# Altium integrated library Actel SmartFusion.IntLib: 80 symbols (part 6 of 14)
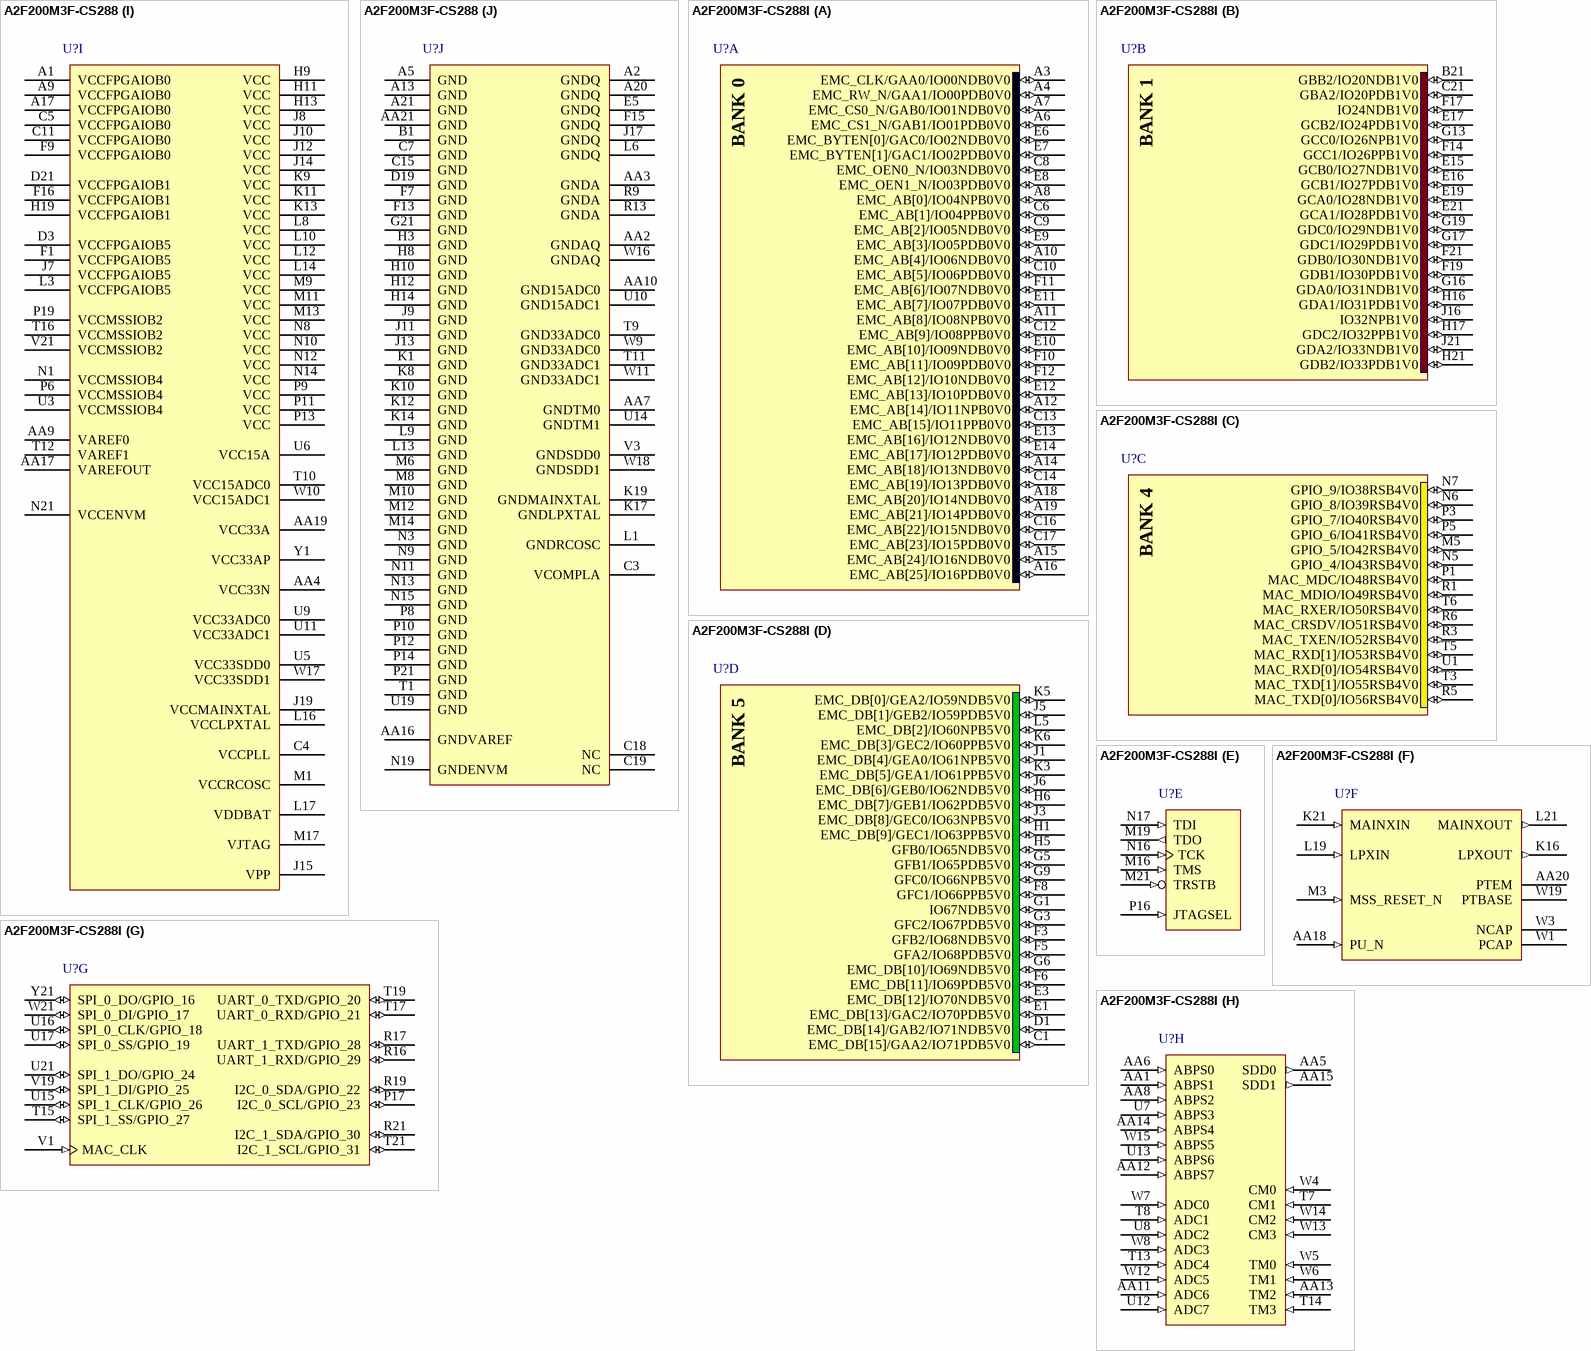
[diagram p90: symbols A2F200M3F-CS288 to A2F200M3F-CS288I]

## A2F200M3F-CS288
designator U?
SmartFusion Intellegent Mixed-Signal FPGA with ARM Cortex-M3, 200000 System Gates, 288-Pin CSP, Standard Speed Grade, Commercial Grade; DatasheetVersion: rev7, Aug-2011; PackageVersion: rev39, Aug-2010; PackageReference: CS288; PackageDescription: 288-Ball Chip Scale Ball Grid Array 0.5 mm Pitch (CS288); ComponentLink1Description: Manufacturer URL; ComponentLink1URL: http://www.actel.com/; ComponentLink2Description: SmartFusion Datasheet; ComponentLink2URL: http://www.actel.com/documents/SmartFusion_DS.pdf; ComponentLink3Description: Package Mechanical Drawings; ComponentLink3URL: http://www.actel.com/documents/PckgMechDrwngs.pdf; ComponentLink4Description: SmartFusion Documents; ComponentLink4URL: http://www.actel.com/products/smartfusion/docs.aspx
footprint CS288 (BGA, 288-Leads, Body 11x11mm, Pitch 0.5mm)
part A pins: A3 EMC_CLK/GAA0/IO00NDB0V0 (io), A4 EMC_RW_N/GAA1/IO00PDB0V0 (io), A6 EMC_CS1_N/GAB1/IO01PDB0V0 (io), A7 EMC_CS0_N/GAB0/IO01NDB0V0 (io), A8 EMC_AB[0]/IO04NPB0V0 (io), A10 EMC_AB[4]/IO06NDB0V0 (io), A11 EMC_AB[8]/IO08NPB0V0 (io), A12 EMC_AB[14]/IO11NPB0V0 (io), A14 EMC_AB[18]/IO13NDB0V0 (io), A15 EMC_AB[24]/IO16NDB0V0 (io), A16 EMC_AB[25]/IO16PDB0V0 (io), A18 EMC_AB[20]/IO14NDB0V0 (io), A19 EMC_AB[21]/IO14PDB0V0 (io), C6 EMC_AB[1]/IO04PPB0V0 (io), C8 EMC_OEN0_N/IO03NDB0V0 (io), C9 EMC_AB[2]/IO05NDB0V0 (io), C10 EMC_AB[5]/IO06PDB0V0 (io), C12 EMC_AB[9]/IO08PPB0V0 (io), C13 EMC_AB[15]/IO11PPB0V0 (io), C14 EMC_AB[19]/IO13PDB0V0 (io), C16 EMC_AB[22]/IO15NDB0V0 (io), C17 EMC_AB[23]/IO15PDB0V0 (io), E6 EMC_BYTEN[0]/GAC0/IO02NDB0V0 (io), E7 EMC_BYTEN[1]/GAC1/IO02PDB0V0 (io), E8 EMC_OEN1_N/IO03PDB0V0 (io), E9 EMC_AB[3]/IO05PDB0V0 (io), E10 EMC_AB[10]/IO09NDB0V0 (io), E11 EMC_AB[7]/IO07PDB0V0 (io), E12 EMC_AB[13]/IO10PDB0V0 (io), E13 EMC_AB[16]/IO12NDB0V0 (io), E14 EMC_AB[17]/IO12PDB0V0 (io), F10 EMC_AB[11]/IO09PDB0V0 (io), F11 EMC_AB[6]/IO07NDB0V0 (io), F12 EMC_AB[12]/IO10NDB0V0 (io)
part B pins: B21 GBB2/IO20NDB1V0 (io), C21 GBA2/IO20PDB1V0 (io), E15 GCB0/IO27NDB1V0 (io), E16 GCB1/IO27PDB1V0 (io), E17 GCB2/IO24PDB1V0 (io), E19 GCA0/IO28NDB1V0 (io), E21 GCA1/IO28PDB1V0 (io), F14 GCC1/IO26PPB1V0 (io), F17 IO24NDB1V0 (io), F19 GDB1/IO30PDB1V0 (io), F21 GDB0/IO30NDB1V0 (io), G13 GCC0/IO26NPB1V0 (io), G16 GDA0/IO31NDB1V0 (io), G17 GDC1/IO29PDB1V0 (io), G19 GDC0/IO29NDB1V0 (io), H16 GDA1/IO31PDB1V0 (io), H17 GDC2/IO32PPB1V0 (io), H21 GDB2/IO33PDB1V0 (io), J16 IO32NPB1V0 (io), J21 GDA2/IO33NDB1V0 (io)
part C pins: M5 GPIO_5/IO42RSB4V0 (io), N5 GPIO_4/IO43RSB4V0 (io), N6 GPIO_8/IO39RSB4V0 (io), N7 GPIO_9/IO38RSB4V0 (io), P1 MAC_MDC/IO48RSB4V0 (io), P3 GPIO_7/IO40RSB4V0 (io), P5 GPIO_6/IO41RSB4V0 (io), R1 MAC_MDIO/IO49RSB4V0 (io), R3 MAC_TXEN/IO52RSB4V0 (io), R5 MAC_TXD[0]/IO56RSB4V0 (io), R6 MAC_CRSDV/IO51RSB4V0 (io), T3 MAC_TXD[1]/IO55RSB4V0 (io), T5 MAC_RXD[1]/IO53RSB4V0 (io), T6 MAC_RXER/IO50RSB4V0 (io), U1 MAC_RXD[0]/IO54RSB4V0 (io)
part D pins: C1 EMC_DB[15]/GAA2/IO71PDB5V0 (io), D1 EMC_DB[14]/GAB2/IO71NDB5V0 (io), E1 EMC_DB[13]/GAC2/IO70PDB5V0 (io), E3 EMC_DB[12]/IO70NDB5V0 (io), F3 GFB2/IO68NDB5V0 (io), F5 GFA2/IO68PDB5V0 (io), F6 EMC_DB[11]/IO69PDB5V0 (io), F8 GFC1/IO66PPB5V0 (io), G1 IO67NDB5V0 (io), G3 GFC2/IO67PDB5V0 (io), G5 GFB1/IO65PDB5V0 (io), G6 EMC_DB[10]/IO69NDB5V0 (io), G9 GFC0/IO66NPB5V0 (io), H1 EMC_DB[9]/GEC1/IO63PPB5V0 (io), H5 GFB0/IO65NDB5V0 (io), H6 EMC_DB[7]/GEB1/IO62PDB5V0 (io), J1 EMC_DB[4]/GEA0/IO61NPB5V0 (io), J3 EMC_DB[8]/GEC0/IO63NPB5V0 (io), J5 EMC_DB[1]/GEB2/IO59PDB5V0 (io), J6 EMC_DB[6]/GEB0/IO62NDB5V0 (io), K3 EMC_DB[5]/GEA1/IO61PPB5V0 (io), K5 EMC_DB[0]/GEA2/IO59NDB5V0 (io), K6 EMC_DB[3]/GEC2/IO60PPB5V0 (io), L5 EMC_DB[2]/IO60NPB5V0 (io)
part E pins: M16 TMS (in), M19 TDO (out), M21 TRSTB (in), N16 TCK (in), N17 TDI (in), P16 JTAGSEL (in)
part F pins: AA18 PU_N (in), AA20 PTEM, K16 LPXOUT (out), K21 MAINXIN (in), L19 LPXIN (in), L21 MAINXOUT (out), M3 MSS_RESET_N (in), W1 PCAP, W3 NCAP, W19 PTBASE
part G pins: P17 I2C_0_SCL/GPIO_23 (io), R16 UART_1_RXD/GPIO_29 (io), R17 UART_1_TXD/GPIO_28 (io), R19 I2C_0_SDA/GPIO_22 (io), R21 I2C_1_SDA/GPIO_30 (io), T15 SPI_1_SS/GPIO_27 (io), T17 UART_0_RXD/GPIO_21 (io), T19 UART_0_TXD/GPIO_20 (io), T21 I2C_1_SCL/GPIO_31 (io), U15 SPI_1_CLK/GPIO_26 (io), U16 SPI_0_CLK/GPIO_18 (io), U17 SPI_0_SS/GPIO_19 (io), U21 SPI_1_DO/GPIO_24 (io), V1 MAC_CLK (in), V19 SPI_1_DI/GPIO_25 (io), W21 SPI_0_DI/GPIO_17 (io), Y21 SPI_0_DO/GPIO_16 (io)
part H pins: AA1 ABPS1 (in), AA5 SDD0 (out), AA6 ABPS0 (in), AA8 ABPS2 (in), AA11 ADC6 (in), AA12 ABPS7 (in), AA13 TM2 (in), AA14 ABPS4 (in), AA15 SDD1 (out), T7 CM1 (in), T8 ADC1 (in), T13 ADC4 (in), T14 TM3 (in), U7 ABPS3 (in), U8 ADC2 (in), U12 ADC7 (in), U13 ABPS6 (in), W4 CM0 (in), W5 TM0 (in), W6 TM1 (in), W7 ADC0 (in), W8 ADC3 (in), W12 ADC5 (in), W13 CM3 (in), W14 CM2 (in), W15 ABPS5 (in)
part I pins: A1 VCCFPGAIOB0 (power), A9 VCCFPGAIOB0 (power), A17 VCCFPGAIOB0 (power), AA4 VCC33N (power), AA9 VAREF0 (power), AA17 VAREFOUT (power), AA19 VCC33A (power), C4 VCCPLL (power), C5 VCCFPGAIOB0 (power), C11 VCCFPGAIOB0 (power), D3 VCCFPGAIOB5 (power), D21 VCCFPGAIOB1 (power), F1 VCCFPGAIOB5 (power), F9 VCCFPGAIOB0 (power), F16 VCCFPGAIOB1 (power), H9 VCC (power), H11 VCC (power), H13 VCC (power), H19 VCCFPGAIOB1 (power), J7 VCCFPGAIOB5 (power), J8 VCC (power), J10 VCC (power), J12 VCC (power), J14 VCC (power), J15 VPP (power), J19 VCCMAINXTAL (power), K9 VCC (power), K11 VCC (power), K13 VCC (power), L3 VCCFPGAIOB5 (power), L8 VCC (power), L10 VCC (power), L12 VCC (power), L14 VCC (power), L16 VCCLPXTAL (power), L17 VDDBAT (power), M1 VCCRCOSC (power), M9 VCC (power), M11 VCC (power), M13 VCC (power), M17 VJTAG (power), N1 VCCMSSIOB4 (power), N8 VCC (power), N10 VCC (power), N12 VCC (power), N14 VCC (power), N21 VCCENVM (power), P6 VCCMSSIOB4 (power), P9 VCC (power), P11 VCC (power), P13 VCC (power), P19 VCCMSSIOB2 (power), T10 VCC15ADC0 (power), T12 VAREF1 (power), T16 VCCMSSIOB2 (power), U3 VCCMSSIOB4 (power), U5 VCC33SDD0 (power), U6 VCC15A (power), U9 VCC33ADC0 (power), U11 VCC33ADC1 (power), V21 VCCMSSIOB2 (power), W10 VCC15ADC1 (power), W17 VCC33SDD1 (power), Y1 VCC33AP (power)
part J pins: A2 GNDQ (power), A5 GND (power), A13 GND (power), A20 GNDQ (power), A21 GND (power), AA2 GNDAQ (power), AA3 GNDA (power), AA7 GNDTM0 (power), AA10 GND15ADC0 (power), AA16 GNDVAREF (power), AA21 GND (power), B1 GND (power), C3 VCOMPLA (power), C7 GND (power), C15 GND (power), C18 NC, C19 NC, D19 GND (power), E5 GNDQ (power), F7 GND (power), F13 GND (power), F15 GNDQ (power), G21 GND (power), H3 GND (power), H8 GND (power), H10 GND (power), H12 GND (power), H14 GND (power), J9 GND (power), J11 GND (power), J13 GND (power), J17 GNDQ (power), K1 GND (power), K8 GND (power), K10 GND (power), K12 GND (power), K14 GND (power), K17 GNDLPXTAL (power), K19 GNDMAINXTAL (power), L1 GNDRCOSC (power), L6 GNDQ (power), L9 GND (power), L13 GND (power), M6 GND (power), M8 GND (power), M10 GND (power), M12 GND (power), M14 GND (power), N3 GND (power), N9 GND (power), N11 GND (power), N13 GND (power), N15 GND (power), N19 GNDENVM (power), P8 GND (power), P10 GND (power), P12 GND (power), P14 GND (power), P21 GND (power), R9 GNDA (power), R13 GNDA (power), T1 GND (power), T9 GND33ADC0 (power), T11 GND33ADC1 (power), U10 GND15ADC1 (power), U14 GNDTM1 (power), U19 GND (power), V3 GNDSDD0 (power), W9 GND33ADC0 (power), W11 GND33ADC1 (power), W16 GNDAQ (power), W18 GNDSDD1 (power)
part A text: BANK 0
part B text: BANK 1
part C text: BANK 4
part D text: BANK 5

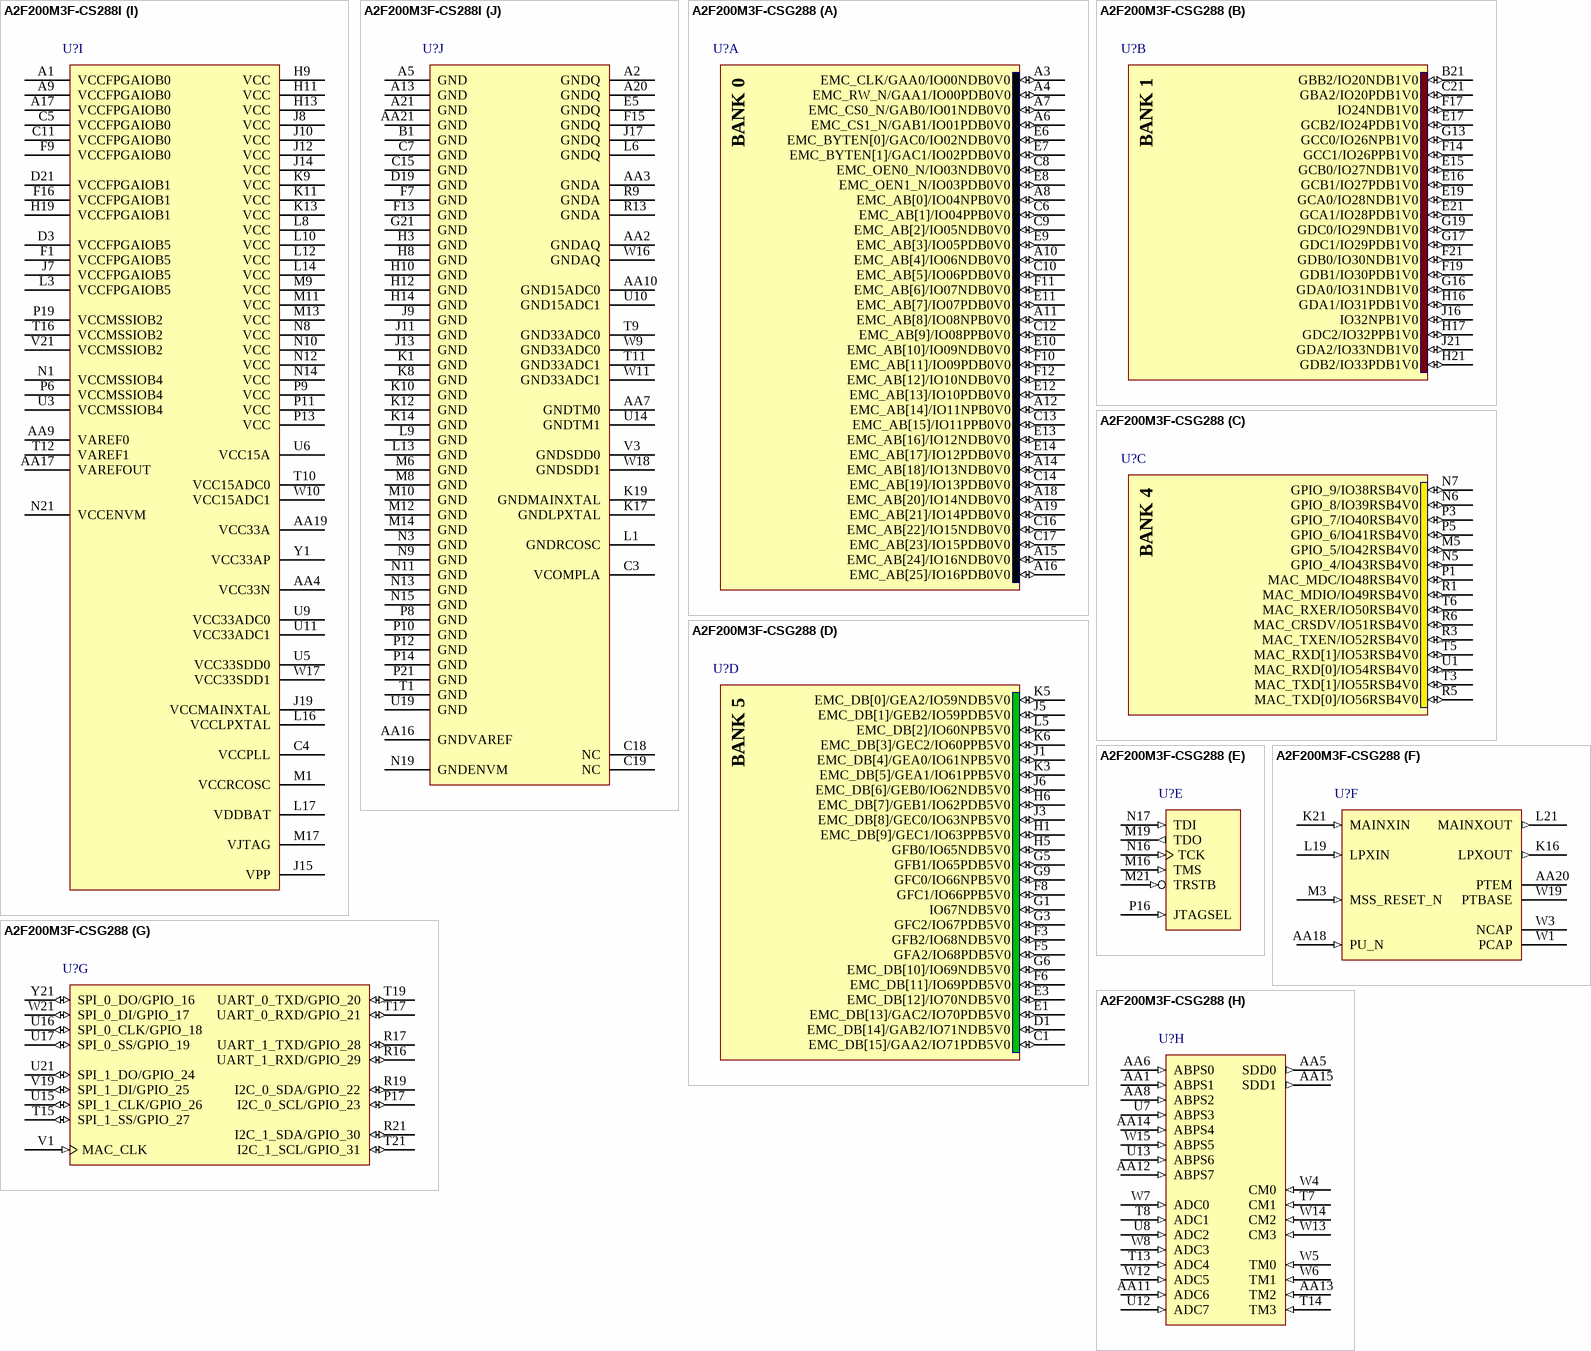
[diagram p35: symbols A2F200M3F-CS288I to A2F200M3F-CSG288]

## A2F200M3F-CS288I
designator U?
SmartFusion Intellegent Mixed-Signal FPGA with ARM Cortex-M3, 200000 System Gates, 288-Pin CSP, Standard Speed Grade, Industrial Grade; DatasheetVersion: rev7, Aug-2011; PackageVersion: rev39, Aug-2010; PackageReference: CS288; PackageDescription: 288-Ball Chip Scale Ball Grid Array 0.5 mm Pitch (CS288); ComponentLink1Description: Manufacturer URL; ComponentLink1URL: http://www.actel.com/; ComponentLink2Description: SmartFusion Datasheet; ComponentLink2URL: http://www.actel.com/documents/SmartFusion_DS.pdf; ComponentLink3Description: Package Mechanical Drawings; ComponentLink3URL: http://www.actel.com/documents/PckgMechDrwngs.pdf; ComponentLink4Description: SmartFusion Documents; ComponentLink4URL: http://www.actel.com/products/smartfusion/docs.aspx
footprint CS288 (BGA, 288-Leads, Body 11x11mm, Pitch 0.5mm)
part A pins: A3 EMC_CLK/GAA0/IO00NDB0V0 (io), A4 EMC_RW_N/GAA1/IO00PDB0V0 (io), A6 EMC_CS1_N/GAB1/IO01PDB0V0 (io), A7 EMC_CS0_N/GAB0/IO01NDB0V0 (io), A8 EMC_AB[0]/IO04NPB0V0 (io), A10 EMC_AB[4]/IO06NDB0V0 (io), A11 EMC_AB[8]/IO08NPB0V0 (io), A12 EMC_AB[14]/IO11NPB0V0 (io), A14 EMC_AB[18]/IO13NDB0V0 (io), A15 EMC_AB[24]/IO16NDB0V0 (io), A16 EMC_AB[25]/IO16PDB0V0 (io), A18 EMC_AB[20]/IO14NDB0V0 (io), A19 EMC_AB[21]/IO14PDB0V0 (io), C6 EMC_AB[1]/IO04PPB0V0 (io), C8 EMC_OEN0_N/IO03NDB0V0 (io), C9 EMC_AB[2]/IO05NDB0V0 (io), C10 EMC_AB[5]/IO06PDB0V0 (io), C12 EMC_AB[9]/IO08PPB0V0 (io), C13 EMC_AB[15]/IO11PPB0V0 (io), C14 EMC_AB[19]/IO13PDB0V0 (io), C16 EMC_AB[22]/IO15NDB0V0 (io), C17 EMC_AB[23]/IO15PDB0V0 (io), E6 EMC_BYTEN[0]/GAC0/IO02NDB0V0 (io), E7 EMC_BYTEN[1]/GAC1/IO02PDB0V0 (io), E8 EMC_OEN1_N/IO03PDB0V0 (io), E9 EMC_AB[3]/IO05PDB0V0 (io), E10 EMC_AB[10]/IO09NDB0V0 (io), E11 EMC_AB[7]/IO07PDB0V0 (io), E12 EMC_AB[13]/IO10PDB0V0 (io), E13 EMC_AB[16]/IO12NDB0V0 (io), E14 EMC_AB[17]/IO12PDB0V0 (io), F10 EMC_AB[11]/IO09PDB0V0 (io), F11 EMC_AB[6]/IO07NDB0V0 (io), F12 EMC_AB[12]/IO10NDB0V0 (io)
part B pins: B21 GBB2/IO20NDB1V0 (io), C21 GBA2/IO20PDB1V0 (io), E15 GCB0/IO27NDB1V0 (io), E16 GCB1/IO27PDB1V0 (io), E17 GCB2/IO24PDB1V0 (io), E19 GCA0/IO28NDB1V0 (io), E21 GCA1/IO28PDB1V0 (io), F14 GCC1/IO26PPB1V0 (io), F17 IO24NDB1V0 (io), F19 GDB1/IO30PDB1V0 (io), F21 GDB0/IO30NDB1V0 (io), G13 GCC0/IO26NPB1V0 (io), G16 GDA0/IO31NDB1V0 (io), G17 GDC1/IO29PDB1V0 (io), G19 GDC0/IO29NDB1V0 (io), H16 GDA1/IO31PDB1V0 (io), H17 GDC2/IO32PPB1V0 (io), H21 GDB2/IO33PDB1V0 (io), J16 IO32NPB1V0 (io), J21 GDA2/IO33NDB1V0 (io)
part C pins: M5 GPIO_5/IO42RSB4V0 (io), N5 GPIO_4/IO43RSB4V0 (io), N6 GPIO_8/IO39RSB4V0 (io), N7 GPIO_9/IO38RSB4V0 (io), P1 MAC_MDC/IO48RSB4V0 (io), P3 GPIO_7/IO40RSB4V0 (io), P5 GPIO_6/IO41RSB4V0 (io), R1 MAC_MDIO/IO49RSB4V0 (io), R3 MAC_TXEN/IO52RSB4V0 (io), R5 MAC_TXD[0]/IO56RSB4V0 (io), R6 MAC_CRSDV/IO51RSB4V0 (io), T3 MAC_TXD[1]/IO55RSB4V0 (io), T5 MAC_RXD[1]/IO53RSB4V0 (io), T6 MAC_RXER/IO50RSB4V0 (io), U1 MAC_RXD[0]/IO54RSB4V0 (io)
part D pins: C1 EMC_DB[15]/GAA2/IO71PDB5V0 (io), D1 EMC_DB[14]/GAB2/IO71NDB5V0 (io), E1 EMC_DB[13]/GAC2/IO70PDB5V0 (io), E3 EMC_DB[12]/IO70NDB5V0 (io), F3 GFB2/IO68NDB5V0 (io), F5 GFA2/IO68PDB5V0 (io), F6 EMC_DB[11]/IO69PDB5V0 (io), F8 GFC1/IO66PPB5V0 (io), G1 IO67NDB5V0 (io), G3 GFC2/IO67PDB5V0 (io), G5 GFB1/IO65PDB5V0 (io), G6 EMC_DB[10]/IO69NDB5V0 (io), G9 GFC0/IO66NPB5V0 (io), H1 EMC_DB[9]/GEC1/IO63PPB5V0 (io), H5 GFB0/IO65NDB5V0 (io), H6 EMC_DB[7]/GEB1/IO62PDB5V0 (io), J1 EMC_DB[4]/GEA0/IO61NPB5V0 (io), J3 EMC_DB[8]/GEC0/IO63NPB5V0 (io), J5 EMC_DB[1]/GEB2/IO59PDB5V0 (io), J6 EMC_DB[6]/GEB0/IO62NDB5V0 (io), K3 EMC_DB[5]/GEA1/IO61PPB5V0 (io), K5 EMC_DB[0]/GEA2/IO59NDB5V0 (io), K6 EMC_DB[3]/GEC2/IO60PPB5V0 (io), L5 EMC_DB[2]/IO60NPB5V0 (io)
part E pins: M16 TMS (in), M19 TDO (out), M21 TRSTB (in), N16 TCK (in), N17 TDI (in), P16 JTAGSEL (in)
part F pins: AA18 PU_N (in), AA20 PTEM, K16 LPXOUT (out), K21 MAINXIN (in), L19 LPXIN (in), L21 MAINXOUT (out), M3 MSS_RESET_N (in), W1 PCAP, W3 NCAP, W19 PTBASE
part G pins: P17 I2C_0_SCL/GPIO_23 (io), R16 UART_1_RXD/GPIO_29 (io), R17 UART_1_TXD/GPIO_28 (io), R19 I2C_0_SDA/GPIO_22 (io), R21 I2C_1_SDA/GPIO_30 (io), T15 SPI_1_SS/GPIO_27 (io), T17 UART_0_RXD/GPIO_21 (io), T19 UART_0_TXD/GPIO_20 (io), T21 I2C_1_SCL/GPIO_31 (io), U15 SPI_1_CLK/GPIO_26 (io), U16 SPI_0_CLK/GPIO_18 (io), U17 SPI_0_SS/GPIO_19 (io), U21 SPI_1_DO/GPIO_24 (io), V1 MAC_CLK (in), V19 SPI_1_DI/GPIO_25 (io), W21 SPI_0_DI/GPIO_17 (io), Y21 SPI_0_DO/GPIO_16 (io)
part H pins: AA1 ABPS1 (in), AA5 SDD0 (out), AA6 ABPS0 (in), AA8 ABPS2 (in), AA11 ADC6 (in), AA12 ABPS7 (in), AA13 TM2 (in), AA14 ABPS4 (in), AA15 SDD1 (out), T7 CM1 (in), T8 ADC1 (in), T13 ADC4 (in), T14 TM3 (in), U7 ABPS3 (in), U8 ADC2 (in), U12 ADC7 (in), U13 ABPS6 (in), W4 CM0 (in), W5 TM0 (in), W6 TM1 (in), W7 ADC0 (in), W8 ADC3 (in), W12 ADC5 (in), W13 CM3 (in), W14 CM2 (in), W15 ABPS5 (in)
part I pins: A1 VCCFPGAIOB0 (power), A9 VCCFPGAIOB0 (power), A17 VCCFPGAIOB0 (power), AA4 VCC33N (power), AA9 VAREF0 (power), AA17 VAREFOUT (power), AA19 VCC33A (power), C4 VCCPLL (power), C5 VCCFPGAIOB0 (power), C11 VCCFPGAIOB0 (power), D3 VCCFPGAIOB5 (power), D21 VCCFPGAIOB1 (power), F1 VCCFPGAIOB5 (power), F9 VCCFPGAIOB0 (power), F16 VCCFPGAIOB1 (power), H9 VCC (power), H11 VCC (power), H13 VCC (power), H19 VCCFPGAIOB1 (power), J7 VCCFPGAIOB5 (power), J8 VCC (power), J10 VCC (power), J12 VCC (power), J14 VCC (power), J15 VPP (power), J19 VCCMAINXTAL (power), K9 VCC (power), K11 VCC (power), K13 VCC (power), L3 VCCFPGAIOB5 (power), L8 VCC (power), L10 VCC (power), L12 VCC (power), L14 VCC (power), L16 VCCLPXTAL (power), L17 VDDBAT (power), M1 VCCRCOSC (power), M9 VCC (power), M11 VCC (power), M13 VCC (power), M17 VJTAG (power), N1 VCCMSSIOB4 (power), N8 VCC (power), N10 VCC (power), N12 VCC (power), N14 VCC (power), N21 VCCENVM (power), P6 VCCMSSIOB4 (power), P9 VCC (power), P11 VCC (power), P13 VCC (power), P19 VCCMSSIOB2 (power), T10 VCC15ADC0 (power), T12 VAREF1 (power), T16 VCCMSSIOB2 (power), U3 VCCMSSIOB4 (power), U5 VCC33SDD0 (power), U6 VCC15A (power), U9 VCC33ADC0 (power), U11 VCC33ADC1 (power), V21 VCCMSSIOB2 (power), W10 VCC15ADC1 (power), W17 VCC33SDD1 (power), Y1 VCC33AP (power)
part J pins: A2 GNDQ (power), A5 GND (power), A13 GND (power), A20 GNDQ (power), A21 GND (power), AA2 GNDAQ (power), AA3 GNDA (power), AA7 GNDTM0 (power), AA10 GND15ADC0 (power), AA16 GNDVAREF (power), AA21 GND (power), B1 GND (power), C3 VCOMPLA (power), C7 GND (power), C15 GND (power), C18 NC, C19 NC, D19 GND (power), E5 GNDQ (power), F7 GND (power), F13 GND (power), F15 GNDQ (power), G21 GND (power), H3 GND (power), H8 GND (power), H10 GND (power), H12 GND (power), H14 GND (power), J9 GND (power), J11 GND (power), J13 GND (power), J17 GNDQ (power), K1 GND (power), K8 GND (power), K10 GND (power), K12 GND (power), K14 GND (power), K17 GNDLPXTAL (power), K19 GNDMAINXTAL (power), L1 GNDRCOSC (power), L6 GNDQ (power), L9 GND (power), L13 GND (power), M6 GND (power), M8 GND (power), M10 GND (power), M12 GND (power), M14 GND (power), N3 GND (power), N9 GND (power), N11 GND (power), N13 GND (power), N15 GND (power), N19 GNDENVM (power), P8 GND (power), P10 GND (power), P12 GND (power), P14 GND (power), P21 GND (power), R9 GNDA (power), R13 GNDA (power), T1 GND (power), T9 GND33ADC0 (power), T11 GND33ADC1 (power), U10 GND15ADC1 (power), U14 GNDTM1 (power), U19 GND (power), V3 GNDSDD0 (power), W9 GND33ADC0 (power), W11 GND33ADC1 (power), W16 GNDAQ (power), W18 GNDSDD1 (power)
part A text: BANK 0
part B text: BANK 1
part C text: BANK 4
part D text: BANK 5

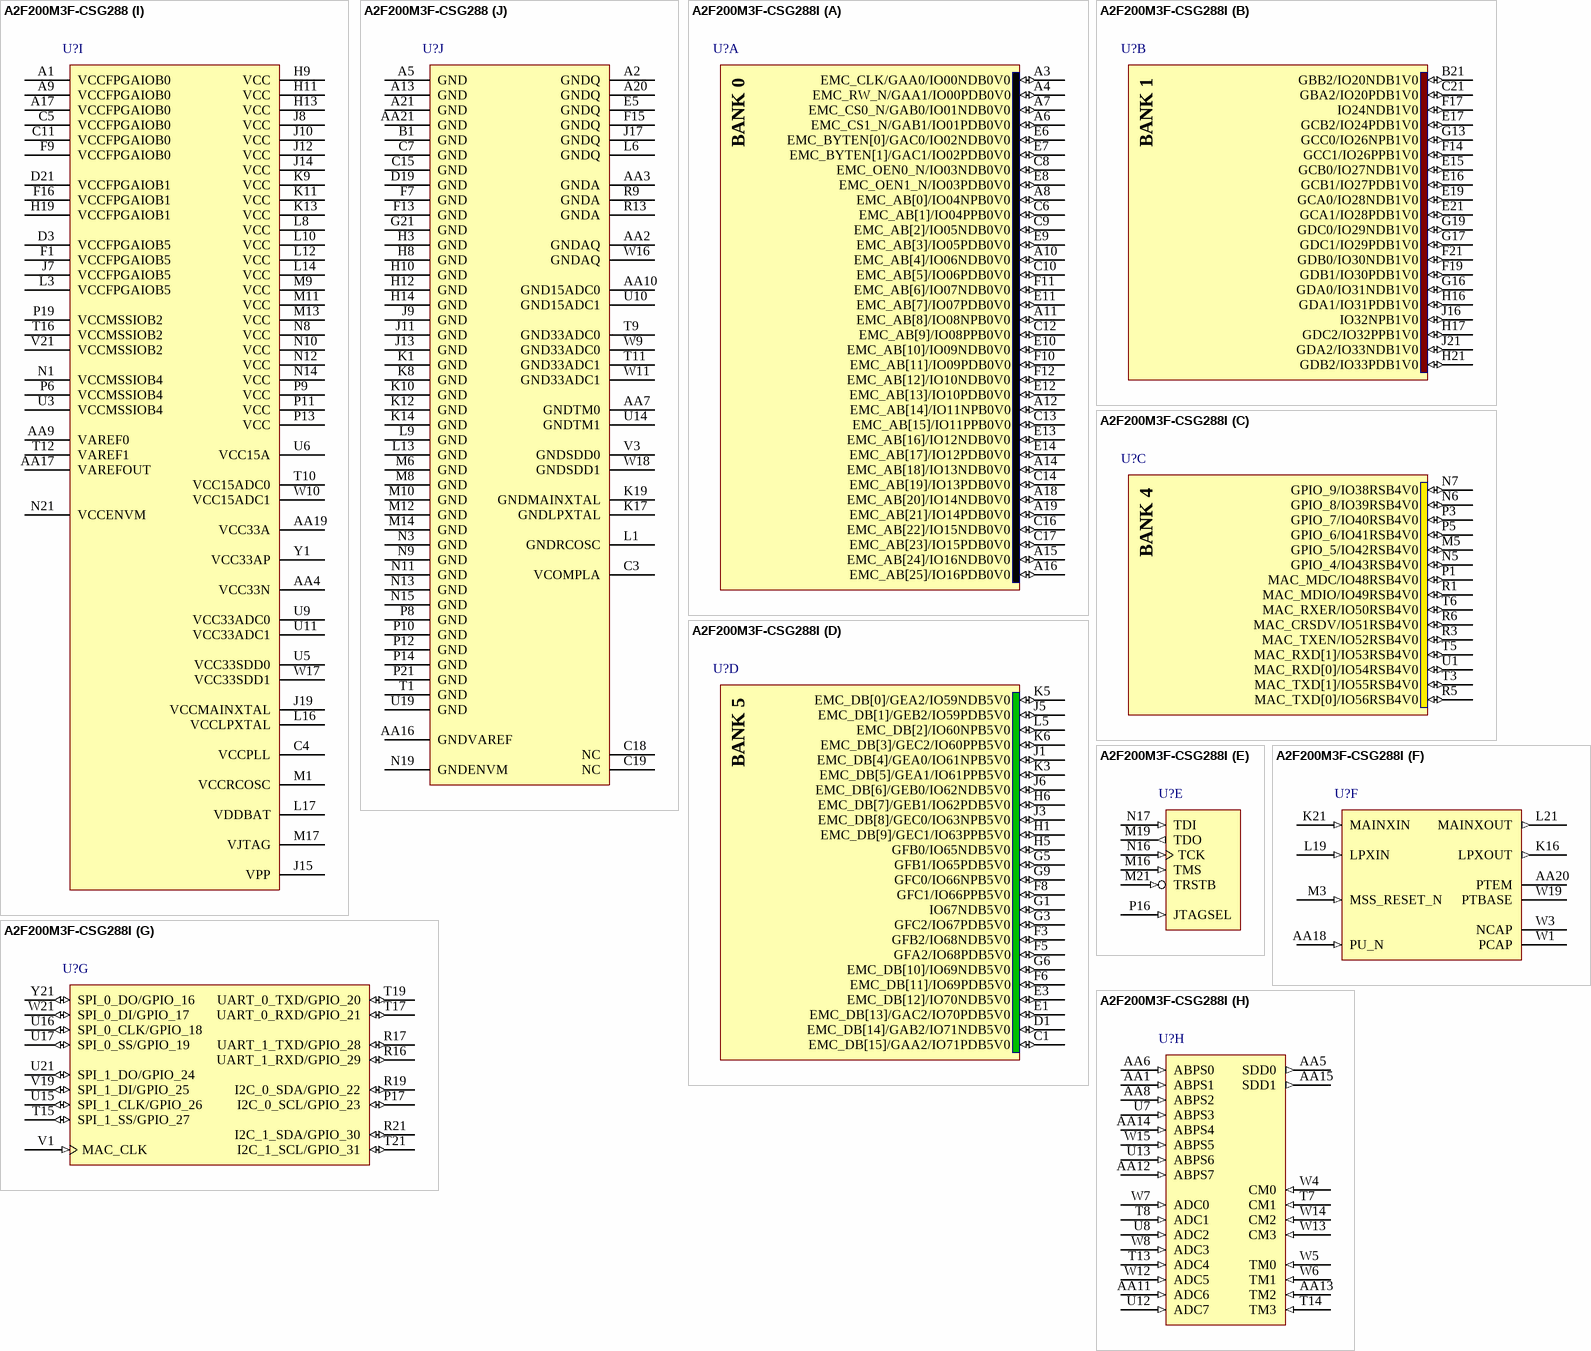
[diagram p36: symbols A2F200M3F-CSG288 to A2F200M3F-CSG288I]

## A2F200M3F-CSG288
designator U?
SmartFusion Intellegent Mixed-Signal FPGA with ARM Cortex-M3, 200000 System Gates, 288-Pin CSP, Standard Speed Grade, Commercial Grade, Pb-Free; DatasheetVersion: rev7, Aug-2011; PackageVersion: rev39, Aug-2010; PackageReference: CS288; PackageDescription: 288-Ball Chip Scale Ball Grid Array 0.5 mm Pitch (CS288); ComponentLink1Description: Manufacturer URL; ComponentLink1URL: http://www.actel.com/; ComponentLink2Description: SmartFusion Datasheet; ComponentLink2URL: http://www.actel.com/documents/SmartFusion_DS.pdf; ComponentLink3Description: Package Mechanical Drawings; ComponentLink3URL: http://www.actel.com/documents/PckgMechDrwngs.pdf; ComponentLink4Description: SmartFusion Documents; ComponentLink4URL: http://www.actel.com/products/smartfusion/docs.aspx
footprint CS288 (BGA, 288-Leads, Body 11x11mm, Pitch 0.5mm)
part A pins: A3 EMC_CLK/GAA0/IO00NDB0V0 (io), A4 EMC_RW_N/GAA1/IO00PDB0V0 (io), A6 EMC_CS1_N/GAB1/IO01PDB0V0 (io), A7 EMC_CS0_N/GAB0/IO01NDB0V0 (io), A8 EMC_AB[0]/IO04NPB0V0 (io), A10 EMC_AB[4]/IO06NDB0V0 (io), A11 EMC_AB[8]/IO08NPB0V0 (io), A12 EMC_AB[14]/IO11NPB0V0 (io), A14 EMC_AB[18]/IO13NDB0V0 (io), A15 EMC_AB[24]/IO16NDB0V0 (io), A16 EMC_AB[25]/IO16PDB0V0 (io), A18 EMC_AB[20]/IO14NDB0V0 (io), A19 EMC_AB[21]/IO14PDB0V0 (io), C6 EMC_AB[1]/IO04PPB0V0 (io), C8 EMC_OEN0_N/IO03NDB0V0 (io), C9 EMC_AB[2]/IO05NDB0V0 (io), C10 EMC_AB[5]/IO06PDB0V0 (io), C12 EMC_AB[9]/IO08PPB0V0 (io), C13 EMC_AB[15]/IO11PPB0V0 (io), C14 EMC_AB[19]/IO13PDB0V0 (io), C16 EMC_AB[22]/IO15NDB0V0 (io), C17 EMC_AB[23]/IO15PDB0V0 (io), E6 EMC_BYTEN[0]/GAC0/IO02NDB0V0 (io), E7 EMC_BYTEN[1]/GAC1/IO02PDB0V0 (io), E8 EMC_OEN1_N/IO03PDB0V0 (io), E9 EMC_AB[3]/IO05PDB0V0 (io), E10 EMC_AB[10]/IO09NDB0V0 (io), E11 EMC_AB[7]/IO07PDB0V0 (io), E12 EMC_AB[13]/IO10PDB0V0 (io), E13 EMC_AB[16]/IO12NDB0V0 (io), E14 EMC_AB[17]/IO12PDB0V0 (io), F10 EMC_AB[11]/IO09PDB0V0 (io), F11 EMC_AB[6]/IO07NDB0V0 (io), F12 EMC_AB[12]/IO10NDB0V0 (io)
part B pins: B21 GBB2/IO20NDB1V0 (io), C21 GBA2/IO20PDB1V0 (io), E15 GCB0/IO27NDB1V0 (io), E16 GCB1/IO27PDB1V0 (io), E17 GCB2/IO24PDB1V0 (io), E19 GCA0/IO28NDB1V0 (io), E21 GCA1/IO28PDB1V0 (io), F14 GCC1/IO26PPB1V0 (io), F17 IO24NDB1V0 (io), F19 GDB1/IO30PDB1V0 (io), F21 GDB0/IO30NDB1V0 (io), G13 GCC0/IO26NPB1V0 (io), G16 GDA0/IO31NDB1V0 (io), G17 GDC1/IO29PDB1V0 (io), G19 GDC0/IO29NDB1V0 (io), H16 GDA1/IO31PDB1V0 (io), H17 GDC2/IO32PPB1V0 (io), H21 GDB2/IO33PDB1V0 (io), J16 IO32NPB1V0 (io), J21 GDA2/IO33NDB1V0 (io)
part C pins: M5 GPIO_5/IO42RSB4V0 (io), N5 GPIO_4/IO43RSB4V0 (io), N6 GPIO_8/IO39RSB4V0 (io), N7 GPIO_9/IO38RSB4V0 (io), P1 MAC_MDC/IO48RSB4V0 (io), P3 GPIO_7/IO40RSB4V0 (io), P5 GPIO_6/IO41RSB4V0 (io), R1 MAC_MDIO/IO49RSB4V0 (io), R3 MAC_TXEN/IO52RSB4V0 (io), R5 MAC_TXD[0]/IO56RSB4V0 (io), R6 MAC_CRSDV/IO51RSB4V0 (io), T3 MAC_TXD[1]/IO55RSB4V0 (io), T5 MAC_RXD[1]/IO53RSB4V0 (io), T6 MAC_RXER/IO50RSB4V0 (io), U1 MAC_RXD[0]/IO54RSB4V0 (io)
part D pins: C1 EMC_DB[15]/GAA2/IO71PDB5V0 (io), D1 EMC_DB[14]/GAB2/IO71NDB5V0 (io), E1 EMC_DB[13]/GAC2/IO70PDB5V0 (io), E3 EMC_DB[12]/IO70NDB5V0 (io), F3 GFB2/IO68NDB5V0 (io), F5 GFA2/IO68PDB5V0 (io), F6 EMC_DB[11]/IO69PDB5V0 (io), F8 GFC1/IO66PPB5V0 (io), G1 IO67NDB5V0 (io), G3 GFC2/IO67PDB5V0 (io), G5 GFB1/IO65PDB5V0 (io), G6 EMC_DB[10]/IO69NDB5V0 (io), G9 GFC0/IO66NPB5V0 (io), H1 EMC_DB[9]/GEC1/IO63PPB5V0 (io), H5 GFB0/IO65NDB5V0 (io), H6 EMC_DB[7]/GEB1/IO62PDB5V0 (io), J1 EMC_DB[4]/GEA0/IO61NPB5V0 (io), J3 EMC_DB[8]/GEC0/IO63NPB5V0 (io), J5 EMC_DB[1]/GEB2/IO59PDB5V0 (io), J6 EMC_DB[6]/GEB0/IO62NDB5V0 (io), K3 EMC_DB[5]/GEA1/IO61PPB5V0 (io), K5 EMC_DB[0]/GEA2/IO59NDB5V0 (io), K6 EMC_DB[3]/GEC2/IO60PPB5V0 (io), L5 EMC_DB[2]/IO60NPB5V0 (io)
part E pins: M16 TMS (in), M19 TDO (out), M21 TRSTB (in), N16 TCK (in), N17 TDI (in), P16 JTAGSEL (in)
part F pins: AA18 PU_N (in), AA20 PTEM, K16 LPXOUT (out), K21 MAINXIN (in), L19 LPXIN (in), L21 MAINXOUT (out), M3 MSS_RESET_N (in), W1 PCAP, W3 NCAP, W19 PTBASE
part G pins: P17 I2C_0_SCL/GPIO_23 (io), R16 UART_1_RXD/GPIO_29 (io), R17 UART_1_TXD/GPIO_28 (io), R19 I2C_0_SDA/GPIO_22 (io), R21 I2C_1_SDA/GPIO_30 (io), T15 SPI_1_SS/GPIO_27 (io), T17 UART_0_RXD/GPIO_21 (io), T19 UART_0_TXD/GPIO_20 (io), T21 I2C_1_SCL/GPIO_31 (io), U15 SPI_1_CLK/GPIO_26 (io), U16 SPI_0_CLK/GPIO_18 (io), U17 SPI_0_SS/GPIO_19 (io), U21 SPI_1_DO/GPIO_24 (io), V1 MAC_CLK (in), V19 SPI_1_DI/GPIO_25 (io), W21 SPI_0_DI/GPIO_17 (io), Y21 SPI_0_DO/GPIO_16 (io)
part H pins: AA1 ABPS1 (in), AA5 SDD0 (out), AA6 ABPS0 (in), AA8 ABPS2 (in), AA11 ADC6 (in), AA12 ABPS7 (in), AA13 TM2 (in), AA14 ABPS4 (in), AA15 SDD1 (out), T7 CM1 (in), T8 ADC1 (in), T13 ADC4 (in), T14 TM3 (in), U7 ABPS3 (in), U8 ADC2 (in), U12 ADC7 (in), U13 ABPS6 (in), W4 CM0 (in), W5 TM0 (in), W6 TM1 (in), W7 ADC0 (in), W8 ADC3 (in), W12 ADC5 (in), W13 CM3 (in), W14 CM2 (in), W15 ABPS5 (in)
part I pins: A1 VCCFPGAIOB0 (power), A9 VCCFPGAIOB0 (power), A17 VCCFPGAIOB0 (power), AA4 VCC33N (power), AA9 VAREF0 (power), AA17 VAREFOUT (power), AA19 VCC33A (power), C4 VCCPLL (power), C5 VCCFPGAIOB0 (power), C11 VCCFPGAIOB0 (power), D3 VCCFPGAIOB5 (power), D21 VCCFPGAIOB1 (power), F1 VCCFPGAIOB5 (power), F9 VCCFPGAIOB0 (power), F16 VCCFPGAIOB1 (power), H9 VCC (power), H11 VCC (power), H13 VCC (power), H19 VCCFPGAIOB1 (power), J7 VCCFPGAIOB5 (power), J8 VCC (power), J10 VCC (power), J12 VCC (power), J14 VCC (power), J15 VPP (power), J19 VCCMAINXTAL (power), K9 VCC (power), K11 VCC (power), K13 VCC (power), L3 VCCFPGAIOB5 (power), L8 VCC (power), L10 VCC (power), L12 VCC (power), L14 VCC (power), L16 VCCLPXTAL (power), L17 VDDBAT (power), M1 VCCRCOSC (power), M9 VCC (power), M11 VCC (power), M13 VCC (power), M17 VJTAG (power), N1 VCCMSSIOB4 (power), N8 VCC (power), N10 VCC (power), N12 VCC (power), N14 VCC (power), N21 VCCENVM (power), P6 VCCMSSIOB4 (power), P9 VCC (power), P11 VCC (power), P13 VCC (power), P19 VCCMSSIOB2 (power), T10 VCC15ADC0 (power), T12 VAREF1 (power), T16 VCCMSSIOB2 (power), U3 VCCMSSIOB4 (power), U5 VCC33SDD0 (power), U6 VCC15A (power), U9 VCC33ADC0 (power), U11 VCC33ADC1 (power), V21 VCCMSSIOB2 (power), W10 VCC15ADC1 (power), W17 VCC33SDD1 (power), Y1 VCC33AP (power)
part J pins: A2 GNDQ (power), A5 GND (power), A13 GND (power), A20 GNDQ (power), A21 GND (power), AA2 GNDAQ (power), AA3 GNDA (power), AA7 GNDTM0 (power), AA10 GND15ADC0 (power), AA16 GNDVAREF (power), AA21 GND (power), B1 GND (power), C3 VCOMPLA (power), C7 GND (power), C15 GND (power), C18 NC, C19 NC, D19 GND (power), E5 GNDQ (power), F7 GND (power), F13 GND (power), F15 GNDQ (power), G21 GND (power), H3 GND (power), H8 GND (power), H10 GND (power), H12 GND (power), H14 GND (power), J9 GND (power), J11 GND (power), J13 GND (power), J17 GNDQ (power), K1 GND (power), K8 GND (power), K10 GND (power), K12 GND (power), K14 GND (power), K17 GNDLPXTAL (power), K19 GNDMAINXTAL (power), L1 GNDRCOSC (power), L6 GNDQ (power), L9 GND (power), L13 GND (power), M6 GND (power), M8 GND (power), M10 GND (power), M12 GND (power), M14 GND (power), N3 GND (power), N9 GND (power), N11 GND (power), N13 GND (power), N15 GND (power), N19 GNDENVM (power), P8 GND (power), P10 GND (power), P12 GND (power), P14 GND (power), P21 GND (power), R9 GNDA (power), R13 GNDA (power), T1 GND (power), T9 GND33ADC0 (power), T11 GND33ADC1 (power), U10 GND15ADC1 (power), U14 GNDTM1 (power), U19 GND (power), V3 GNDSDD0 (power), W9 GND33ADC0 (power), W11 GND33ADC1 (power), W16 GNDAQ (power), W18 GNDSDD1 (power)
part A text: BANK 0
part B text: BANK 1
part C text: BANK 4
part D text: BANK 5

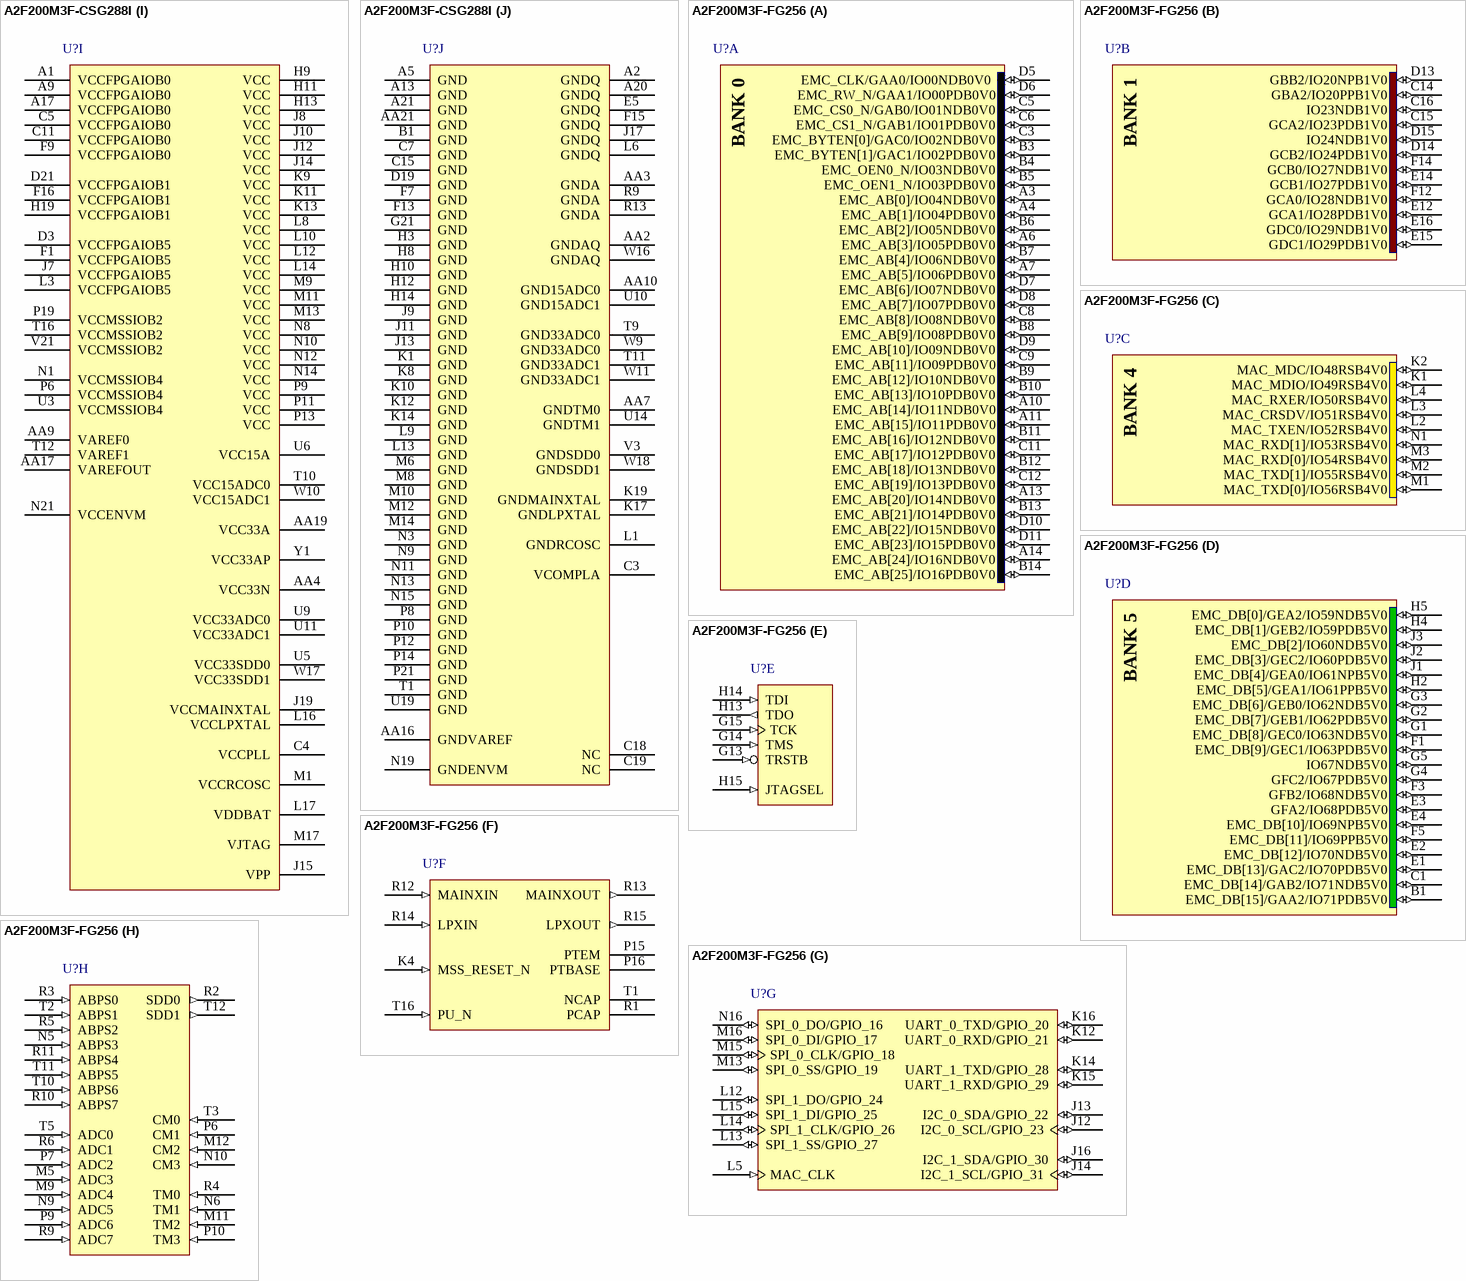
[diagram p37: symbols A2F200M3F-CSG288I to A2F200M3F-FG256]

## A2F200M3F-CSG288I
designator U?
SmartFusion Intellegent Mixed-Signal FPGA with ARM Cortex-M3, 200000 System Gates, 288-Pin CSP, Standard Speed Grade, Industrial Grade, Pb-Free; DatasheetVersion: rev7, Aug-2011; PackageVersion: rev39, Aug-2010; PackageReference: CS288; PackageDescription: 288-Ball Chip Scale Ball Grid Array 0.5 mm Pitch (CS288); ComponentLink1Description: Manufacturer URL; ComponentLink1URL: http://www.actel.com/; ComponentLink2Description: SmartFusion Datasheet; ComponentLink2URL: http://www.actel.com/documents/SmartFusion_DS.pdf; ComponentLink3Description: Package Mechanical Drawings; ComponentLink3URL: http://www.actel.com/documents/PckgMechDrwngs.pdf; ComponentLink4Description: SmartFusion Documents; ComponentLink4URL: http://www.actel.com/products/smartfusion/docs.aspx
footprint CS288 (BGA, 288-Leads, Body 11x11mm, Pitch 0.5mm)
part A pins: A3 EMC_CLK/GAA0/IO00NDB0V0 (io), A4 EMC_RW_N/GAA1/IO00PDB0V0 (io), A6 EMC_CS1_N/GAB1/IO01PDB0V0 (io), A7 EMC_CS0_N/GAB0/IO01NDB0V0 (io), A8 EMC_AB[0]/IO04NPB0V0 (io), A10 EMC_AB[4]/IO06NDB0V0 (io), A11 EMC_AB[8]/IO08NPB0V0 (io), A12 EMC_AB[14]/IO11NPB0V0 (io), A14 EMC_AB[18]/IO13NDB0V0 (io), A15 EMC_AB[24]/IO16NDB0V0 (io), A16 EMC_AB[25]/IO16PDB0V0 (io), A18 EMC_AB[20]/IO14NDB0V0 (io), A19 EMC_AB[21]/IO14PDB0V0 (io), C6 EMC_AB[1]/IO04PPB0V0 (io), C8 EMC_OEN0_N/IO03NDB0V0 (io), C9 EMC_AB[2]/IO05NDB0V0 (io), C10 EMC_AB[5]/IO06PDB0V0 (io), C12 EMC_AB[9]/IO08PPB0V0 (io), C13 EMC_AB[15]/IO11PPB0V0 (io), C14 EMC_AB[19]/IO13PDB0V0 (io), C16 EMC_AB[22]/IO15NDB0V0 (io), C17 EMC_AB[23]/IO15PDB0V0 (io), E6 EMC_BYTEN[0]/GAC0/IO02NDB0V0 (io), E7 EMC_BYTEN[1]/GAC1/IO02PDB0V0 (io), E8 EMC_OEN1_N/IO03PDB0V0 (io), E9 EMC_AB[3]/IO05PDB0V0 (io), E10 EMC_AB[10]/IO09NDB0V0 (io), E11 EMC_AB[7]/IO07PDB0V0 (io), E12 EMC_AB[13]/IO10PDB0V0 (io), E13 EMC_AB[16]/IO12NDB0V0 (io), E14 EMC_AB[17]/IO12PDB0V0 (io), F10 EMC_AB[11]/IO09PDB0V0 (io), F11 EMC_AB[6]/IO07NDB0V0 (io), F12 EMC_AB[12]/IO10NDB0V0 (io)
part B pins: B21 GBB2/IO20NDB1V0 (io), C21 GBA2/IO20PDB1V0 (io), E15 GCB0/IO27NDB1V0 (io), E16 GCB1/IO27PDB1V0 (io), E17 GCB2/IO24PDB1V0 (io), E19 GCA0/IO28NDB1V0 (io), E21 GCA1/IO28PDB1V0 (io), F14 GCC1/IO26PPB1V0 (io), F17 IO24NDB1V0 (io), F19 GDB1/IO30PDB1V0 (io), F21 GDB0/IO30NDB1V0 (io), G13 GCC0/IO26NPB1V0 (io), G16 GDA0/IO31NDB1V0 (io), G17 GDC1/IO29PDB1V0 (io), G19 GDC0/IO29NDB1V0 (io), H16 GDA1/IO31PDB1V0 (io), H17 GDC2/IO32PPB1V0 (io), H21 GDB2/IO33PDB1V0 (io), J16 IO32NPB1V0 (io), J21 GDA2/IO33NDB1V0 (io)
part C pins: M5 GPIO_5/IO42RSB4V0 (io), N5 GPIO_4/IO43RSB4V0 (io), N6 GPIO_8/IO39RSB4V0 (io), N7 GPIO_9/IO38RSB4V0 (io), P1 MAC_MDC/IO48RSB4V0 (io), P3 GPIO_7/IO40RSB4V0 (io), P5 GPIO_6/IO41RSB4V0 (io), R1 MAC_MDIO/IO49RSB4V0 (io), R3 MAC_TXEN/IO52RSB4V0 (io), R5 MAC_TXD[0]/IO56RSB4V0 (io), R6 MAC_CRSDV/IO51RSB4V0 (io), T3 MAC_TXD[1]/IO55RSB4V0 (io), T5 MAC_RXD[1]/IO53RSB4V0 (io), T6 MAC_RXER/IO50RSB4V0 (io), U1 MAC_RXD[0]/IO54RSB4V0 (io)
part D pins: C1 EMC_DB[15]/GAA2/IO71PDB5V0 (io), D1 EMC_DB[14]/GAB2/IO71NDB5V0 (io), E1 EMC_DB[13]/GAC2/IO70PDB5V0 (io), E3 EMC_DB[12]/IO70NDB5V0 (io), F3 GFB2/IO68NDB5V0 (io), F5 GFA2/IO68PDB5V0 (io), F6 EMC_DB[11]/IO69PDB5V0 (io), F8 GFC1/IO66PPB5V0 (io), G1 IO67NDB5V0 (io), G3 GFC2/IO67PDB5V0 (io), G5 GFB1/IO65PDB5V0 (io), G6 EMC_DB[10]/IO69NDB5V0 (io), G9 GFC0/IO66NPB5V0 (io), H1 EMC_DB[9]/GEC1/IO63PPB5V0 (io), H5 GFB0/IO65NDB5V0 (io), H6 EMC_DB[7]/GEB1/IO62PDB5V0 (io), J1 EMC_DB[4]/GEA0/IO61NPB5V0 (io), J3 EMC_DB[8]/GEC0/IO63NPB5V0 (io), J5 EMC_DB[1]/GEB2/IO59PDB5V0 (io), J6 EMC_DB[6]/GEB0/IO62NDB5V0 (io), K3 EMC_DB[5]/GEA1/IO61PPB5V0 (io), K5 EMC_DB[0]/GEA2/IO59NDB5V0 (io), K6 EMC_DB[3]/GEC2/IO60PPB5V0 (io), L5 EMC_DB[2]/IO60NPB5V0 (io)
part E pins: M16 TMS (in), M19 TDO (out), M21 TRSTB (in), N16 TCK (in), N17 TDI (in), P16 JTAGSEL (in)
part F pins: AA18 PU_N (in), AA20 PTEM, K16 LPXOUT (out), K21 MAINXIN (in), L19 LPXIN (in), L21 MAINXOUT (out), M3 MSS_RESET_N (in), W1 PCAP, W3 NCAP, W19 PTBASE
part G pins: P17 I2C_0_SCL/GPIO_23 (io), R16 UART_1_RXD/GPIO_29 (io), R17 UART_1_TXD/GPIO_28 (io), R19 I2C_0_SDA/GPIO_22 (io), R21 I2C_1_SDA/GPIO_30 (io), T15 SPI_1_SS/GPIO_27 (io), T17 UART_0_RXD/GPIO_21 (io), T19 UART_0_TXD/GPIO_20 (io), T21 I2C_1_SCL/GPIO_31 (io), U15 SPI_1_CLK/GPIO_26 (io), U16 SPI_0_CLK/GPIO_18 (io), U17 SPI_0_SS/GPIO_19 (io), U21 SPI_1_DO/GPIO_24 (io), V1 MAC_CLK (in), V19 SPI_1_DI/GPIO_25 (io), W21 SPI_0_DI/GPIO_17 (io), Y21 SPI_0_DO/GPIO_16 (io)
part H pins: AA1 ABPS1 (in), AA5 SDD0 (out), AA6 ABPS0 (in), AA8 ABPS2 (in), AA11 ADC6 (in), AA12 ABPS7 (in), AA13 TM2 (in), AA14 ABPS4 (in), AA15 SDD1 (out), T7 CM1 (in), T8 ADC1 (in), T13 ADC4 (in), T14 TM3 (in), U7 ABPS3 (in), U8 ADC2 (in), U12 ADC7 (in), U13 ABPS6 (in), W4 CM0 (in), W5 TM0 (in), W6 TM1 (in), W7 ADC0 (in), W8 ADC3 (in), W12 ADC5 (in), W13 CM3 (in), W14 CM2 (in), W15 ABPS5 (in)
part I pins: A1 VCCFPGAIOB0 (power), A9 VCCFPGAIOB0 (power), A17 VCCFPGAIOB0 (power), AA4 VCC33N (power), AA9 VAREF0 (power), AA17 VAREFOUT (power), AA19 VCC33A (power), C4 VCCPLL (power), C5 VCCFPGAIOB0 (power), C11 VCCFPGAIOB0 (power), D3 VCCFPGAIOB5 (power), D21 VCCFPGAIOB1 (power), F1 VCCFPGAIOB5 (power), F9 VCCFPGAIOB0 (power), F16 VCCFPGAIOB1 (power), H9 VCC (power), H11 VCC (power), H13 VCC (power), H19 VCCFPGAIOB1 (power), J7 VCCFPGAIOB5 (power), J8 VCC (power), J10 VCC (power), J12 VCC (power), J14 VCC (power), J15 VPP (power), J19 VCCMAINXTAL (power), K9 VCC (power), K11 VCC (power), K13 VCC (power), L3 VCCFPGAIOB5 (power), L8 VCC (power), L10 VCC (power), L12 VCC (power), L14 VCC (power), L16 VCCLPXTAL (power), L17 VDDBAT (power), M1 VCCRCOSC (power), M9 VCC (power), M11 VCC (power), M13 VCC (power), M17 VJTAG (power), N1 VCCMSSIOB4 (power), N8 VCC (power), N10 VCC (power), N12 VCC (power), N14 VCC (power), N21 VCCENVM (power), P6 VCCMSSIOB4 (power), P9 VCC (power), P11 VCC (power), P13 VCC (power), P19 VCCMSSIOB2 (power), T10 VCC15ADC0 (power), T12 VAREF1 (power), T16 VCCMSSIOB2 (power), U3 VCCMSSIOB4 (power), U5 VCC33SDD0 (power), U6 VCC15A (power), U9 VCC33ADC0 (power), U11 VCC33ADC1 (power), V21 VCCMSSIOB2 (power), W10 VCC15ADC1 (power), W17 VCC33SDD1 (power), Y1 VCC33AP (power)
part J pins: A2 GNDQ (power), A5 GND (power), A13 GND (power), A20 GNDQ (power), A21 GND (power), AA2 GNDAQ (power), AA3 GNDA (power), AA7 GNDTM0 (power), AA10 GND15ADC0 (power), AA16 GNDVAREF (power), AA21 GND (power), B1 GND (power), C3 VCOMPLA (power), C7 GND (power), C15 GND (power), C18 NC, C19 NC, D19 GND (power), E5 GNDQ (power), F7 GND (power), F13 GND (power), F15 GNDQ (power), G21 GND (power), H3 GND (power), H8 GND (power), H10 GND (power), H12 GND (power), H14 GND (power), J9 GND (power), J11 GND (power), J13 GND (power), J17 GNDQ (power), K1 GND (power), K8 GND (power), K10 GND (power), K12 GND (power), K14 GND (power), K17 GNDLPXTAL (power), K19 GNDMAINXTAL (power), L1 GNDRCOSC (power), L6 GNDQ (power), L9 GND (power), L13 GND (power), M6 GND (power), M8 GND (power), M10 GND (power), M12 GND (power), M14 GND (power), N3 GND (power), N9 GND (power), N11 GND (power), N13 GND (power), N15 GND (power), N19 GNDENVM (power), P8 GND (power), P10 GND (power), P12 GND (power), P14 GND (power), P21 GND (power), R9 GNDA (power), R13 GNDA (power), T1 GND (power), T9 GND33ADC0 (power), T11 GND33ADC1 (power), U10 GND15ADC1 (power), U14 GNDTM1 (power), U19 GND (power), V3 GNDSDD0 (power), W9 GND33ADC0 (power), W11 GND33ADC1 (power), W16 GNDAQ (power), W18 GNDSDD1 (power)
part A text: BANK 0
part B text: BANK 1
part C text: BANK 4
part D text: BANK 5

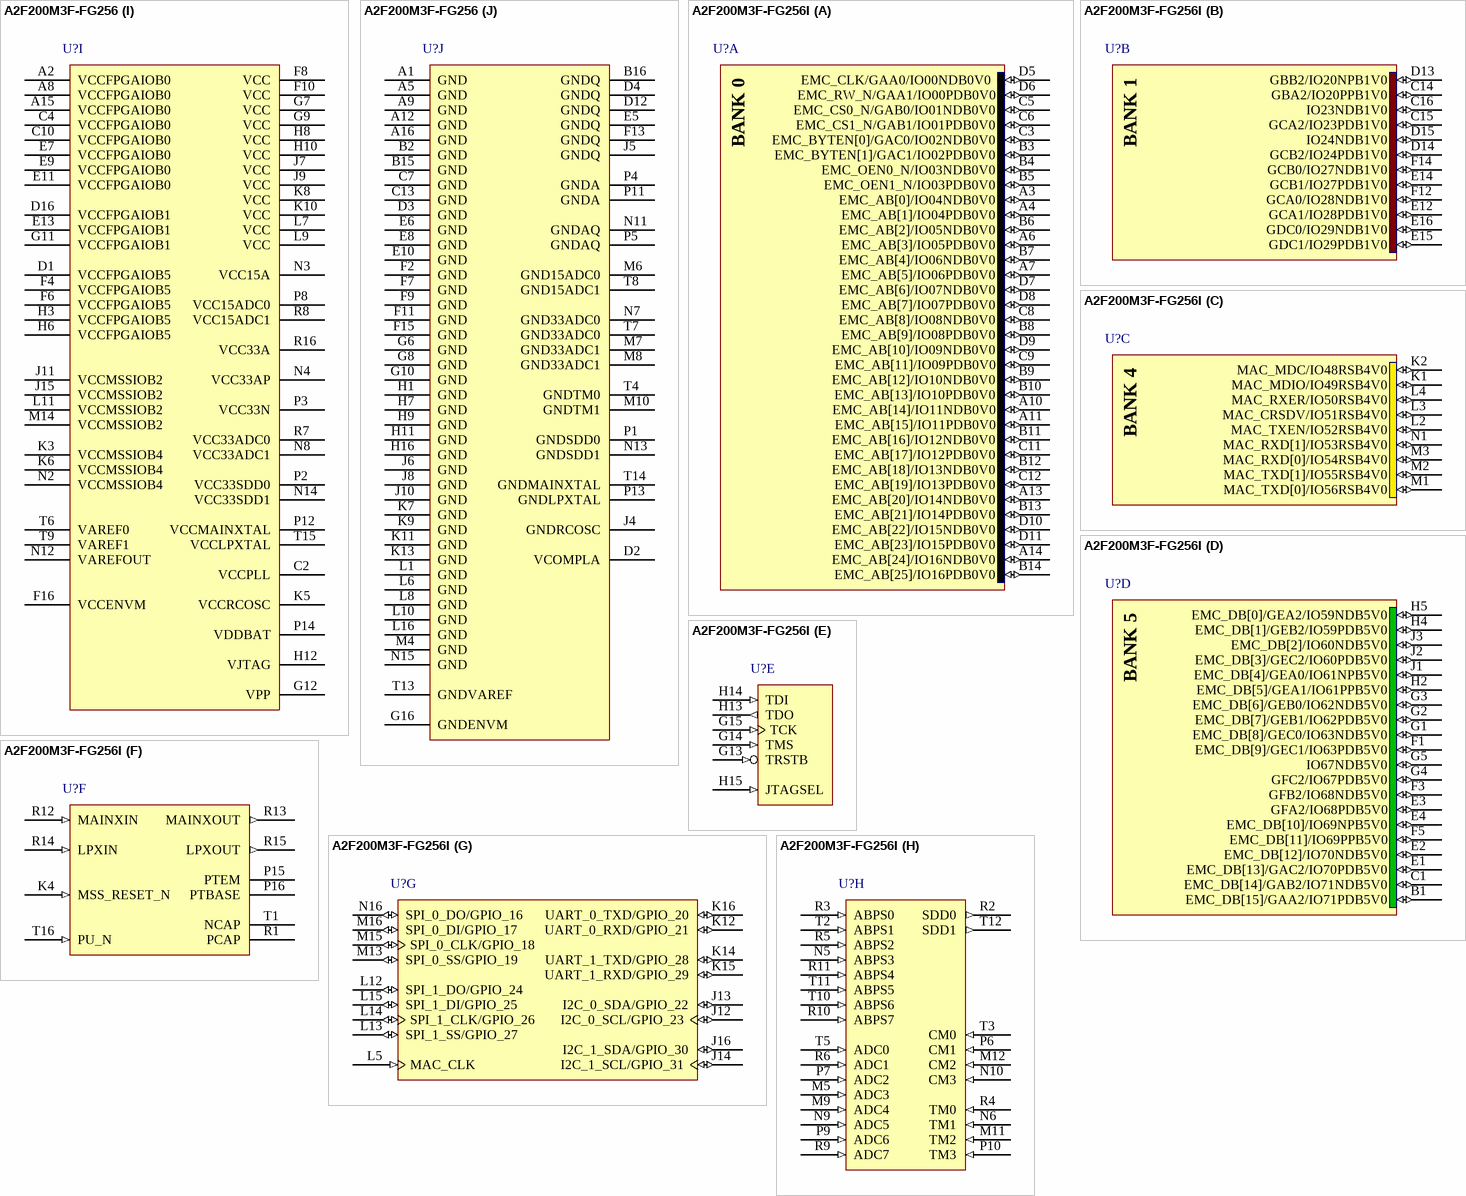
[diagram p38: symbols A2F200M3F-FG256 to A2F200M3F-FG256I]

## A2F200M3F-FG256
designator U?
SmartFusion Intellegent Mixed-Signal FPGA with ARM Cortex-M3, 200000 System Gates, 256-Pin FBGA, Standard Speed Grade, Commercial Grade; DatasheetVersion: rev7, Aug-2011; PackageVersion: rev39, Aug-2010; PackageReference: FG256; PackageDescription: 256-Ball Fine Pitch Plastic Ball Grid Array 1.00 mm Pitch (FG256); Code_JEDEC: MO-192-DAF-1; ComponentLink1Description: Manufacturer URL; ComponentLink1URL: http://www.actel.com/; ComponentLink2Description: SmartFusion Datasheet; ComponentLink2URL: http://www.actel.com/documents/SmartFusion_DS.pdf; ComponentLink3Description: Package Mechanical Drawings; ComponentLink3URL: http://www.actel.com/documents/PckgMechDrwngs.pdf; ComponentLink4Description: SmartFusion Documents; ComponentLink4URL: http://www.actel.com/products/smartfusion/docs.aspx
footprint FG256 (BGA, 256-Leads, Body 17x17mm, Pitch 1mm)
part A pins: A3 EMC_AB[0]/IO04NDB0V0 (io), A4 EMC_AB[1]/IO04PDB0V0 (io), A6 EMC_AB[3]/IO05PDB0V0 (io), A7 EMC_AB[5]/IO06PDB0V0 (io), A10 EMC_AB[14]/IO11NDB0V0 (io), A11 EMC_AB[15]/IO11PDB0V0 (io), A13 EMC_AB[20]/IO14NDB0V0 (io), A14 EMC_AB[24]/IO16NDB0V0 (io), B3 EMC_BYTEN[1]/GAC1/IO02PDB0V0 (io), B4 EMC_OEN0_N/IO03NDB0V0 (io), B5 EMC_OEN1_N/IO03PDB0V0 (io), B6 EMC_AB[2]/IO05NDB0V0 (io), B7 EMC_AB[4]/IO06NDB0V0 (io), B8 EMC_AB[9]/IO08PDB0V0 (io), B9 EMC_AB[12]/IO10NDB0V0 (io), B10 EMC_AB[13]/IO10PDB0V0 (io), B11 EMC_AB[16]/IO12NDB0V0 (io), B12 EMC_AB[18]/IO13NDB0V0 (io), B13 EMC_AB[21]/IO14PDB0V0 (io), B14 EMC_AB[25]/IO16PDB0V0 (io), C3 EMC_BYTEN[0]/GAC0/IO02NDB0V0 (io), C5 EMC_CS0_N/GAB0/IO01NDB0V0 (io), C6 EMC_CS1_N/GAB1/IO01PDB0V0 (io), C8 EMC_AB[8]/IO08NDB0V0 (io), C9 EMC_AB[11]/IO09PDB0V0 (io), C11 EMC_AB[17]/IO12PDB0V0 (io), C12 EMC_AB[19]/IO13PDB0V0 (io), D5 EMC_CLK/GAA0/IO00NDB0V0 (io), D6 EMC_RW_N/GAA1/IO00PDB0V0 (io), D7 EMC_AB[6]/IO07NDB0V0 (io), D8 EMC_AB[7]/IO07PDB0V0 (io), D9 EMC_AB[10]/IO09NDB0V0 (io), D10 EMC_AB[22]/IO15NDB0V0 (io), D11 EMC_AB[23]/IO15PDB0V0 (io)
part B pins: C14 GBA2/IO20PPB1V0 (io), C15 GCA2/IO23PDB1V0 (io), C16 IO23NDB1V0 (io), D13 GBB2/IO20NPB1V0 (io), D14 GCB2/IO24PDB1V0 (io), D15 IO24NDB1V0 (io), E12 GCA1/IO28PDB1V0 (io), E14 GCB1/IO27PDB1V0 (io), E15 GDC1/IO29PDB1V0 (io), E16 GDC0/IO29NDB1V0 (io), F12 GCA0/IO28NDB1V0 (io), F14 GCB0/IO27NDB1V0 (io)
part C pins: K1 MAC_MDIO/IO49RSB4V0 (io), K2 MAC_MDC/IO48RSB4V0 (io), L2 MAC_TXEN/IO52RSB4V0 (io), L3 MAC_CRSDV/IO51RSB4V0 (io), L4 MAC_RXER/IO50RSB4V0 (io), M1 MAC_TXD[0]/IO56RSB4V0 (io), M2 MAC_TXD[1]/IO55RSB4V0 (io), M3 MAC_RXD[0]/IO54RSB4V0 (io), N1 MAC_RXD[1]/IO53RSB4V0 (io)
part D pins: B1 EMC_DB[15]/GAA2/IO71PDB5V0 (io), C1 EMC_DB[14]/GAB2/IO71NDB5V0 (io), E1 EMC_DB[13]/GAC2/IO70PDB5V0 (io), E2 EMC_DB[12]/IO70NDB5V0 (io), E3 GFA2/IO68PDB5V0 (io), E4 EMC_DB[10]/IO69NPB5V0 (io), F1 EMC_DB[9]/GEC1/IO63PDB5V0 (io), F3 GFB2/IO68NDB5V0 (io), F5 EMC_DB[11]/IO69PPB5V0 (io), G1 EMC_DB[8]/GEC0/IO63NDB5V0 (io), G2 EMC_DB[7]/GEB1/IO62PDB5V0 (io), G3 EMC_DB[6]/GEB0/IO62NDB5V0 (io), G4 GFC2/IO67PDB5V0 (io), G5 IO67NDB5V0 (io), H2 EMC_DB[5]/GEA1/IO61PPB5V0 (io), H4 EMC_DB[1]/GEB2/IO59PDB5V0 (io), H5 EMC_DB[0]/GEA2/IO59NDB5V0 (io), J1 EMC_DB[4]/GEA0/IO61NPB5V0 (io), J2 EMC_DB[3]/GEC2/IO60PDB5V0 (io), J3 EMC_DB[2]/IO60NDB5V0 (io)
part E pins: G13 TRSTB (in), G14 TMS (in), G15 TCK (in), H13 TDO (out), H14 TDI (in), H15 JTAGSEL (in)
part F pins: K4 MSS_RESET_N (in), P15 PTEM, P16 PTBASE, R1 PCAP, R12 MAINXIN (in), R13 MAINXOUT (out), R14 LPXIN (in), R15 LPXOUT (out), T1 NCAP, T16 PU_N (in)
part G pins: J12 I2C_0_SCL/GPIO_23 (io), J13 I2C_0_SDA/GPIO_22 (io), J14 I2C_1_SCL/GPIO_31 (io), J16 I2C_1_SDA/GPIO_30 (io), K12 UART_0_RXD/GPIO_21 (io), K14 UART_1_TXD/GPIO_28 (io), K15 UART_1_RXD/GPIO_29 (io), K16 UART_0_TXD/GPIO_20 (io), L5 MAC_CLK (in), L12 SPI_1_DO/GPIO_24 (io), L13 SPI_1_SS/GPIO_27 (io), L14 SPI_1_CLK/GPIO_26 (io), L15 SPI_1_DI/GPIO_25 (io), M13 SPI_0_SS/GPIO_19 (io), M15 SPI_0_CLK/GPIO_18 (io), M16 SPI_0_DI/GPIO_17 (io), N16 SPI_0_DO/GPIO_16 (io)
part H pins: M5 ADC3 (in), M9 ADC4 (in), M11 TM2 (in), M12 CM2 (in), N5 ABPS3 (in), N6 TM1 (in), N9 ADC5 (in), N10 CM3 (in), P6 CM1 (in), P7 ADC2 (in), P9 ADC6 (in), P10 TM3 (in), R2 SDD0 (out), R3 ABPS0 (in), R4 TM0 (in), R5 ABPS2 (in), R6 ADC1 (in), R9 ADC7 (in), R10 ABPS7 (in), R11 ABPS4 (in), T2 ABPS1 (in), T3 CM0 (in), T5 ADC0 (in), T10 ABPS6 (in), T11 ABPS5 (in), T12 SDD1 (out)
part I pins: A2 VCCFPGAIOB0 (power), A8 VCCFPGAIOB0 (power), A15 VCCFPGAIOB0 (power), C2 VCCPLL (power), C4 VCCFPGAIOB0 (power), C10 VCCFPGAIOB0 (power), D1 VCCFPGAIOB5 (power), D16 VCCFPGAIOB1 (power), E7 VCCFPGAIOB0 (power), E9 VCCFPGAIOB0 (power), E11 VCCFPGAIOB0 (power), E13 VCCFPGAIOB1 (power), F4 VCCFPGAIOB5 (power), F6 VCCFPGAIOB5 (power), F8 VCC (power), F10 VCC (power), F16 VCCENVM (power), G7 VCC (power), G9 VCC (power), G11 VCCFPGAIOB1 (power), G12 VPP (power), H3 VCCFPGAIOB5 (power), H6 VCCFPGAIOB5 (power), H8 VCC (power), H10 VCC (power), H12 VJTAG (power), J7 VCC (power), J9 VCC (power), J11 VCCMSSIOB2 (power), J15 VCCMSSIOB2 (power), K3 VCCMSSIOB4 (power), K5 VCCRCOSC (power), K6 VCCMSSIOB4 (power), K8 VCC (power), K10 VCC (power), L7 VCC (power), L9 VCC (power), L11 VCCMSSIOB2 (power), M14 VCCMSSIOB2 (power), N2 VCCMSSIOB4 (power), N3 VCC15A (power), N4 VCC33AP (power), N8 VCC33ADC1 (power), N12 VAREFOUT (power), N14 VCC33SDD1 (power), P2 VCC33SDD0 (power), P3 VCC33N (power), P8 VCC15ADC0 (power), P12 VCCMAINXTAL (power), P14 VDDBAT (power), R7 VCC33ADC0 (power), R8 VCC15ADC1 (power), R16 VCC33A (power), T6 VAREF0 (power), T9 VAREF1 (power), T15 VCCLPXTAL (power)
part J pins: A1 GND (power), A5 GND (power), A9 GND (power), A12 GND (power), A16 GND (power), B2 GND (power), B15 GND (power), B16 GNDQ (power), C7 GND (power), C13 GND (power), D2 VCOMPLA (power), D3 GND (power), D4 GNDQ (power), D12 GNDQ (power), E5 GNDQ (power), E6 GND (power), E8 GND (power), E10 GND (power), F2 GND (power), F7 GND (power), F9 GND (power), F11 GND (power), F13 GNDQ (power), F15 GND (power), G6 GND (power), G8 GND (power), G10 GND (power), G16 GNDENVM (power), H1 GND (power), H7 GND (power), H9 GND (power), H11 GND (power), H16 GND (power), J4 GNDRCOSC (power), J5 GNDQ (power), J6 GND (power), J8 GND (power), J10 GND (power), K7 GND (power), K9 GND (power), K11 GND (power), K13 GND (power), L1 GND (power), L6 GND (power), L8 GND (power), L10 GND (power), L16 GND (power), M4 GND (power), M6 GND15ADC0 (power), M7 GND33ADC1 (power), M8 GND33ADC1 (power), M10 GNDTM1 (power), N7 GND33ADC0 (power), N11 GNDAQ (power), N13 GNDSDD1 (power), N15 GND (power), P1 GNDSDD0 (power), P4 GNDA (power), P5 GNDAQ (power), P11 GNDA (power), P13 GNDLPXTAL (power), T4 GNDTM0 (power), T7 GND33ADC0 (power), T8 GND15ADC1 (power), T13 GNDVAREF (power), T14 GNDMAINXTAL (power)
part A text: BANK 0
part B text: BANK 1
part C text: BANK 4
part D text: BANK 5

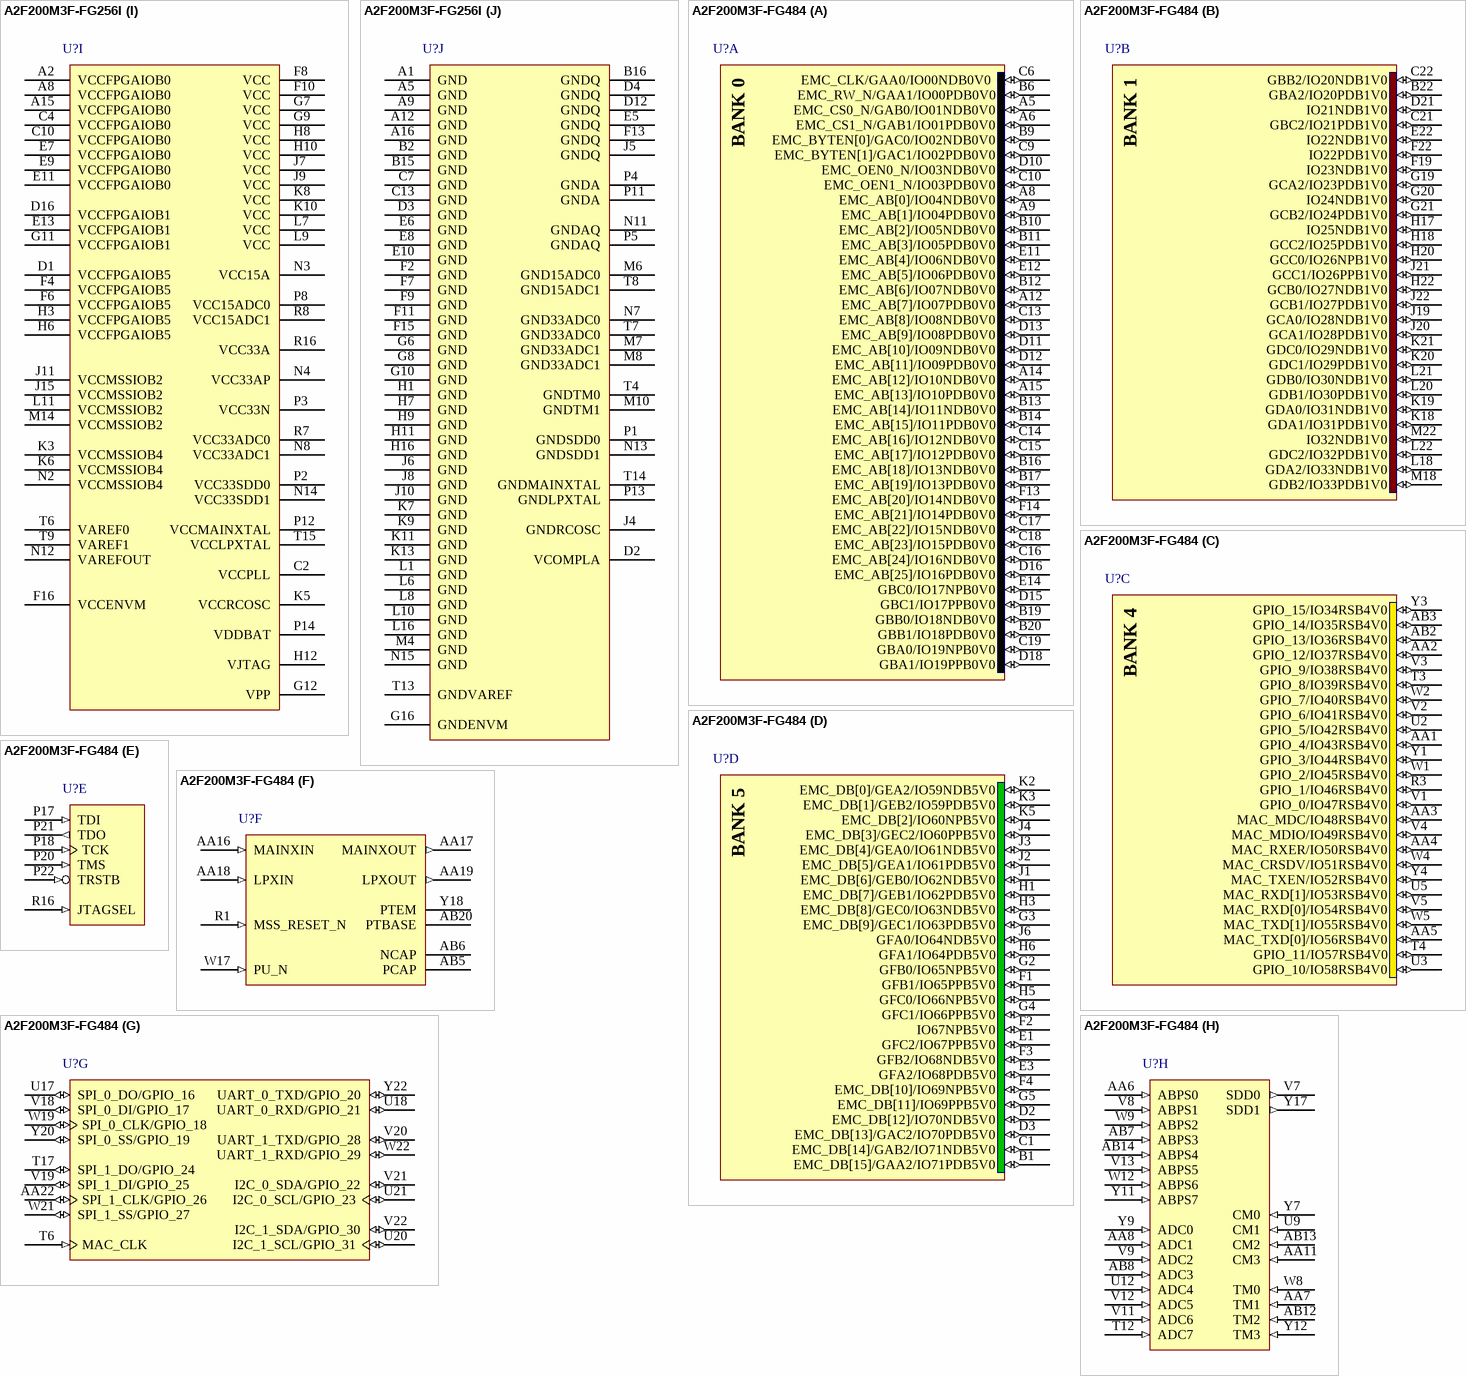
[diagram p39: symbols A2F200M3F-FG256I to A2F200M3F-FG484]

## A2F200M3F-FG256I
designator U?
SmartFusion Intellegent Mixed-Signal FPGA with ARM Cortex-M3, 200000 System Gates, 256-Pin FBGA, Standard Speed Grade, Industrial Grade; DatasheetVersion: rev7, Aug-2011; PackageVersion: rev39, Aug-2010; PackageReference: FG256; PackageDescription: 256-Ball Fine Pitch Plastic Ball Grid Array 1.00 mm Pitch (FG256); Code_JEDEC: MO-192-DAF-1; ComponentLink1Description: Manufacturer URL; ComponentLink1URL: http://www.actel.com/; ComponentLink2Description: SmartFusion Datasheet; ComponentLink2URL: http://www.actel.com/documents/SmartFusion_DS.pdf; ComponentLink3Description: Package Mechanical Drawings; ComponentLink3URL: http://www.actel.com/documents/PckgMechDrwngs.pdf; ComponentLink4Description: SmartFusion Documents; ComponentLink4URL: http://www.actel.com/products/smartfusion/docs.aspx
footprint FG256 (BGA, 256-Leads, Body 17x17mm, Pitch 1mm)
part A pins: A3 EMC_AB[0]/IO04NDB0V0 (io), A4 EMC_AB[1]/IO04PDB0V0 (io), A6 EMC_AB[3]/IO05PDB0V0 (io), A7 EMC_AB[5]/IO06PDB0V0 (io), A10 EMC_AB[14]/IO11NDB0V0 (io), A11 EMC_AB[15]/IO11PDB0V0 (io), A13 EMC_AB[20]/IO14NDB0V0 (io), A14 EMC_AB[24]/IO16NDB0V0 (io), B3 EMC_BYTEN[1]/GAC1/IO02PDB0V0 (io), B4 EMC_OEN0_N/IO03NDB0V0 (io), B5 EMC_OEN1_N/IO03PDB0V0 (io), B6 EMC_AB[2]/IO05NDB0V0 (io), B7 EMC_AB[4]/IO06NDB0V0 (io), B8 EMC_AB[9]/IO08PDB0V0 (io), B9 EMC_AB[12]/IO10NDB0V0 (io), B10 EMC_AB[13]/IO10PDB0V0 (io), B11 EMC_AB[16]/IO12NDB0V0 (io), B12 EMC_AB[18]/IO13NDB0V0 (io), B13 EMC_AB[21]/IO14PDB0V0 (io), B14 EMC_AB[25]/IO16PDB0V0 (io), C3 EMC_BYTEN[0]/GAC0/IO02NDB0V0 (io), C5 EMC_CS0_N/GAB0/IO01NDB0V0 (io), C6 EMC_CS1_N/GAB1/IO01PDB0V0 (io), C8 EMC_AB[8]/IO08NDB0V0 (io), C9 EMC_AB[11]/IO09PDB0V0 (io), C11 EMC_AB[17]/IO12PDB0V0 (io), C12 EMC_AB[19]/IO13PDB0V0 (io), D5 EMC_CLK/GAA0/IO00NDB0V0 (io), D6 EMC_RW_N/GAA1/IO00PDB0V0 (io), D7 EMC_AB[6]/IO07NDB0V0 (io), D8 EMC_AB[7]/IO07PDB0V0 (io), D9 EMC_AB[10]/IO09NDB0V0 (io), D10 EMC_AB[22]/IO15NDB0V0 (io), D11 EMC_AB[23]/IO15PDB0V0 (io)
part B pins: C14 GBA2/IO20PPB1V0 (io), C15 GCA2/IO23PDB1V0 (io), C16 IO23NDB1V0 (io), D13 GBB2/IO20NPB1V0 (io), D14 GCB2/IO24PDB1V0 (io), D15 IO24NDB1V0 (io), E12 GCA1/IO28PDB1V0 (io), E14 GCB1/IO27PDB1V0 (io), E15 GDC1/IO29PDB1V0 (io), E16 GDC0/IO29NDB1V0 (io), F12 GCA0/IO28NDB1V0 (io), F14 GCB0/IO27NDB1V0 (io)
part C pins: K1 MAC_MDIO/IO49RSB4V0 (io), K2 MAC_MDC/IO48RSB4V0 (io), L2 MAC_TXEN/IO52RSB4V0 (io), L3 MAC_CRSDV/IO51RSB4V0 (io), L4 MAC_RXER/IO50RSB4V0 (io), M1 MAC_TXD[0]/IO56RSB4V0 (io), M2 MAC_TXD[1]/IO55RSB4V0 (io), M3 MAC_RXD[0]/IO54RSB4V0 (io), N1 MAC_RXD[1]/IO53RSB4V0 (io)
part D pins: B1 EMC_DB[15]/GAA2/IO71PDB5V0 (io), C1 EMC_DB[14]/GAB2/IO71NDB5V0 (io), E1 EMC_DB[13]/GAC2/IO70PDB5V0 (io), E2 EMC_DB[12]/IO70NDB5V0 (io), E3 GFA2/IO68PDB5V0 (io), E4 EMC_DB[10]/IO69NPB5V0 (io), F1 EMC_DB[9]/GEC1/IO63PDB5V0 (io), F3 GFB2/IO68NDB5V0 (io), F5 EMC_DB[11]/IO69PPB5V0 (io), G1 EMC_DB[8]/GEC0/IO63NDB5V0 (io), G2 EMC_DB[7]/GEB1/IO62PDB5V0 (io), G3 EMC_DB[6]/GEB0/IO62NDB5V0 (io), G4 GFC2/IO67PDB5V0 (io), G5 IO67NDB5V0 (io), H2 EMC_DB[5]/GEA1/IO61PPB5V0 (io), H4 EMC_DB[1]/GEB2/IO59PDB5V0 (io), H5 EMC_DB[0]/GEA2/IO59NDB5V0 (io), J1 EMC_DB[4]/GEA0/IO61NPB5V0 (io), J2 EMC_DB[3]/GEC2/IO60PDB5V0 (io), J3 EMC_DB[2]/IO60NDB5V0 (io)
part E pins: G13 TRSTB (in), G14 TMS (in), G15 TCK (in), H13 TDO (out), H14 TDI (in), H15 JTAGSEL (in)
part F pins: K4 MSS_RESET_N (in), P15 PTEM, P16 PTBASE, R1 PCAP, R12 MAINXIN (in), R13 MAINXOUT (out), R14 LPXIN (in), R15 LPXOUT (out), T1 NCAP, T16 PU_N (in)
part G pins: J12 I2C_0_SCL/GPIO_23 (io), J13 I2C_0_SDA/GPIO_22 (io), J14 I2C_1_SCL/GPIO_31 (io), J16 I2C_1_SDA/GPIO_30 (io), K12 UART_0_RXD/GPIO_21 (io), K14 UART_1_TXD/GPIO_28 (io), K15 UART_1_RXD/GPIO_29 (io), K16 UART_0_TXD/GPIO_20 (io), L5 MAC_CLK (in), L12 SPI_1_DO/GPIO_24 (io), L13 SPI_1_SS/GPIO_27 (io), L14 SPI_1_CLK/GPIO_26 (io), L15 SPI_1_DI/GPIO_25 (io), M13 SPI_0_SS/GPIO_19 (io), M15 SPI_0_CLK/GPIO_18 (io), M16 SPI_0_DI/GPIO_17 (io), N16 SPI_0_DO/GPIO_16 (io)
part H pins: M5 ADC3 (in), M9 ADC4 (in), M11 TM2 (in), M12 CM2 (in), N5 ABPS3 (in), N6 TM1 (in), N9 ADC5 (in), N10 CM3 (in), P6 CM1 (in), P7 ADC2 (in), P9 ADC6 (in), P10 TM3 (in), R2 SDD0 (out), R3 ABPS0 (in), R4 TM0 (in), R5 ABPS2 (in), R6 ADC1 (in), R9 ADC7 (in), R10 ABPS7 (in), R11 ABPS4 (in), T2 ABPS1 (in), T3 CM0 (in), T5 ADC0 (in), T10 ABPS6 (in), T11 ABPS5 (in), T12 SDD1 (out)
part I pins: A2 VCCFPGAIOB0 (power), A8 VCCFPGAIOB0 (power), A15 VCCFPGAIOB0 (power), C2 VCCPLL (power), C4 VCCFPGAIOB0 (power), C10 VCCFPGAIOB0 (power), D1 VCCFPGAIOB5 (power), D16 VCCFPGAIOB1 (power), E7 VCCFPGAIOB0 (power), E9 VCCFPGAIOB0 (power), E11 VCCFPGAIOB0 (power), E13 VCCFPGAIOB1 (power), F4 VCCFPGAIOB5 (power), F6 VCCFPGAIOB5 (power), F8 VCC (power), F10 VCC (power), F16 VCCENVM (power), G7 VCC (power), G9 VCC (power), G11 VCCFPGAIOB1 (power), G12 VPP (power), H3 VCCFPGAIOB5 (power), H6 VCCFPGAIOB5 (power), H8 VCC (power), H10 VCC (power), H12 VJTAG (power), J7 VCC (power), J9 VCC (power), J11 VCCMSSIOB2 (power), J15 VCCMSSIOB2 (power), K3 VCCMSSIOB4 (power), K5 VCCRCOSC (power), K6 VCCMSSIOB4 (power), K8 VCC (power), K10 VCC (power), L7 VCC (power), L9 VCC (power), L11 VCCMSSIOB2 (power), M14 VCCMSSIOB2 (power), N2 VCCMSSIOB4 (power), N3 VCC15A (power), N4 VCC33AP (power), N8 VCC33ADC1 (power), N12 VAREFOUT (power), N14 VCC33SDD1 (power), P2 VCC33SDD0 (power), P3 VCC33N (power), P8 VCC15ADC0 (power), P12 VCCMAINXTAL (power), P14 VDDBAT (power), R7 VCC33ADC0 (power), R8 VCC15ADC1 (power), R16 VCC33A (power), T6 VAREF0 (power), T9 VAREF1 (power), T15 VCCLPXTAL (power)
part J pins: A1 GND (power), A5 GND (power), A9 GND (power), A12 GND (power), A16 GND (power), B2 GND (power), B15 GND (power), B16 GNDQ (power), C7 GND (power), C13 GND (power), D2 VCOMPLA (power), D3 GND (power), D4 GNDQ (power), D12 GNDQ (power), E5 GNDQ (power), E6 GND (power), E8 GND (power), E10 GND (power), F2 GND (power), F7 GND (power), F9 GND (power), F11 GND (power), F13 GNDQ (power), F15 GND (power), G6 GND (power), G8 GND (power), G10 GND (power), G16 GNDENVM (power), H1 GND (power), H7 GND (power), H9 GND (power), H11 GND (power), H16 GND (power), J4 GNDRCOSC (power), J5 GNDQ (power), J6 GND (power), J8 GND (power), J10 GND (power), K7 GND (power), K9 GND (power), K11 GND (power), K13 GND (power), L1 GND (power), L6 GND (power), L8 GND (power), L10 GND (power), L16 GND (power), M4 GND (power), M6 GND15ADC0 (power), M7 GND33ADC1 (power), M8 GND33ADC1 (power), M10 GNDTM1 (power), N7 GND33ADC0 (power), N11 GNDAQ (power), N13 GNDSDD1 (power), N15 GND (power), P1 GNDSDD0 (power), P4 GNDA (power), P5 GNDAQ (power), P11 GNDA (power), P13 GNDLPXTAL (power), T4 GNDTM0 (power), T7 GND33ADC0 (power), T8 GND15ADC1 (power), T13 GNDVAREF (power), T14 GNDMAINXTAL (power)
part A text: BANK 0
part B text: BANK 1
part C text: BANK 4
part D text: BANK 5

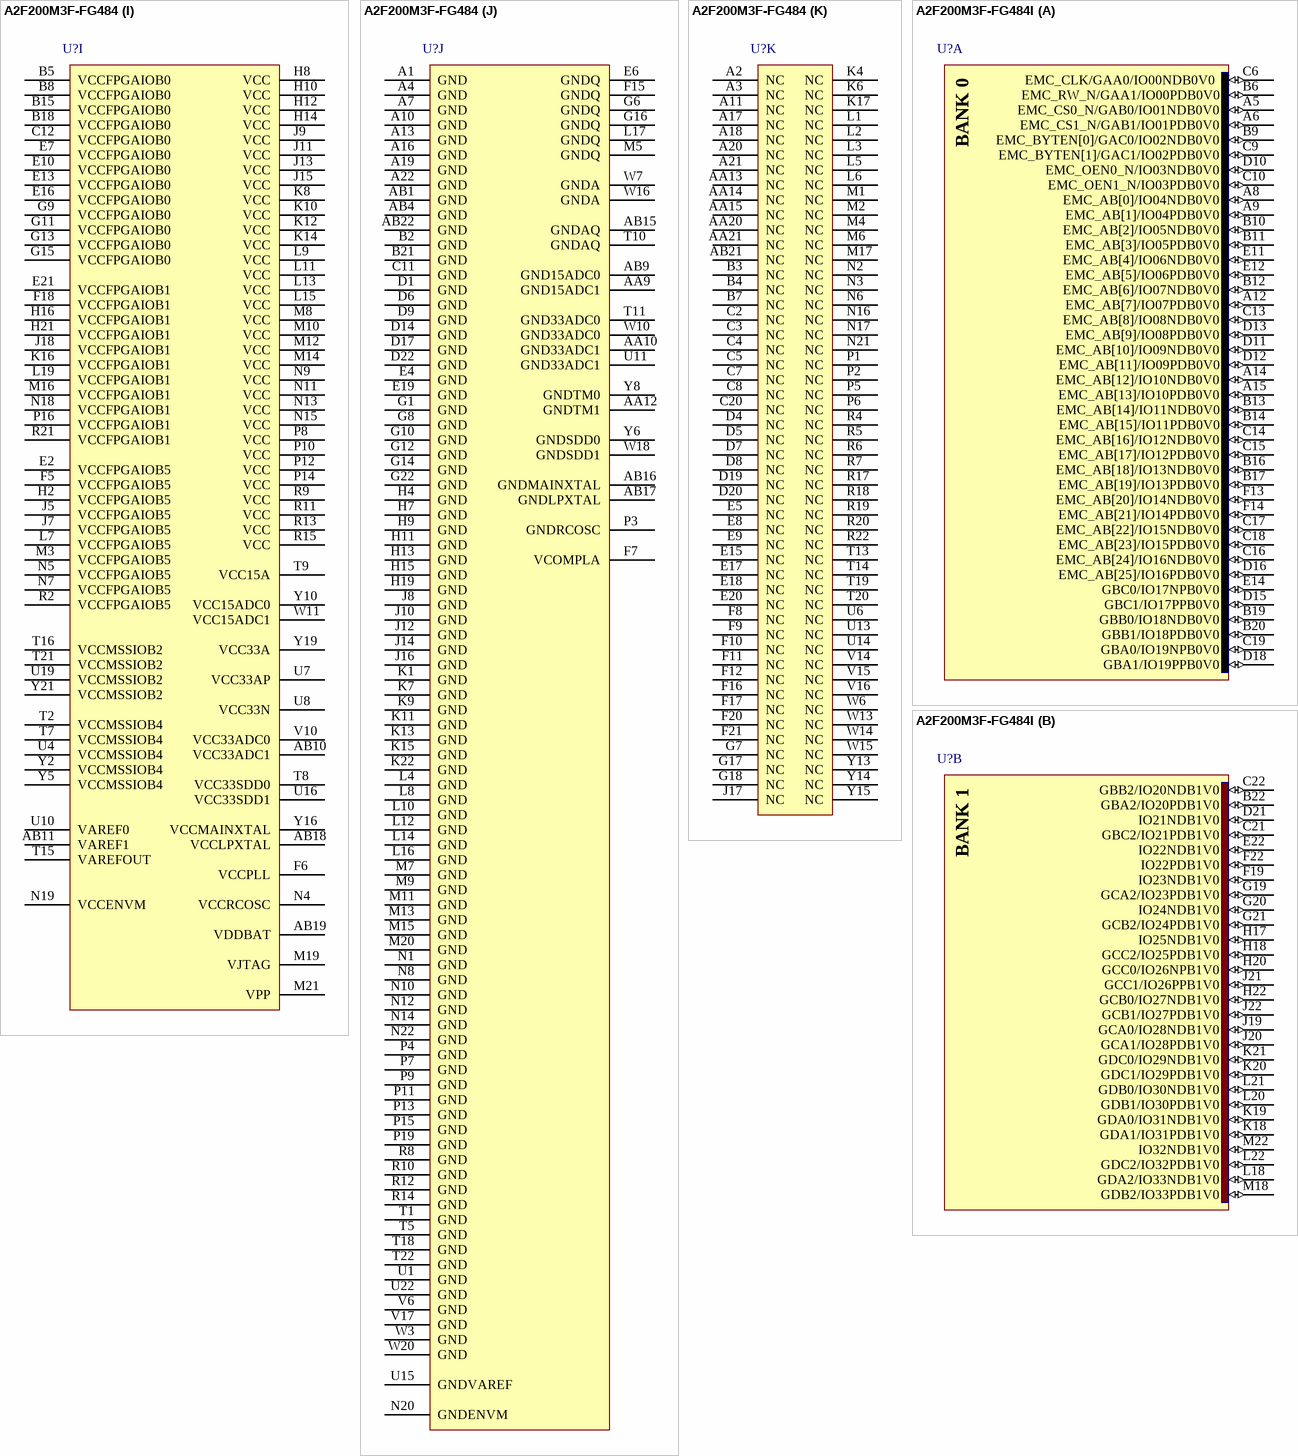
[diagram p40: symbols A2F200M3F-FG484 to A2F200M3F-FG484I]